# Altium integrated library Renesas Microcontroller R8C.IntLib: 628 symbols (part 25 of 33)
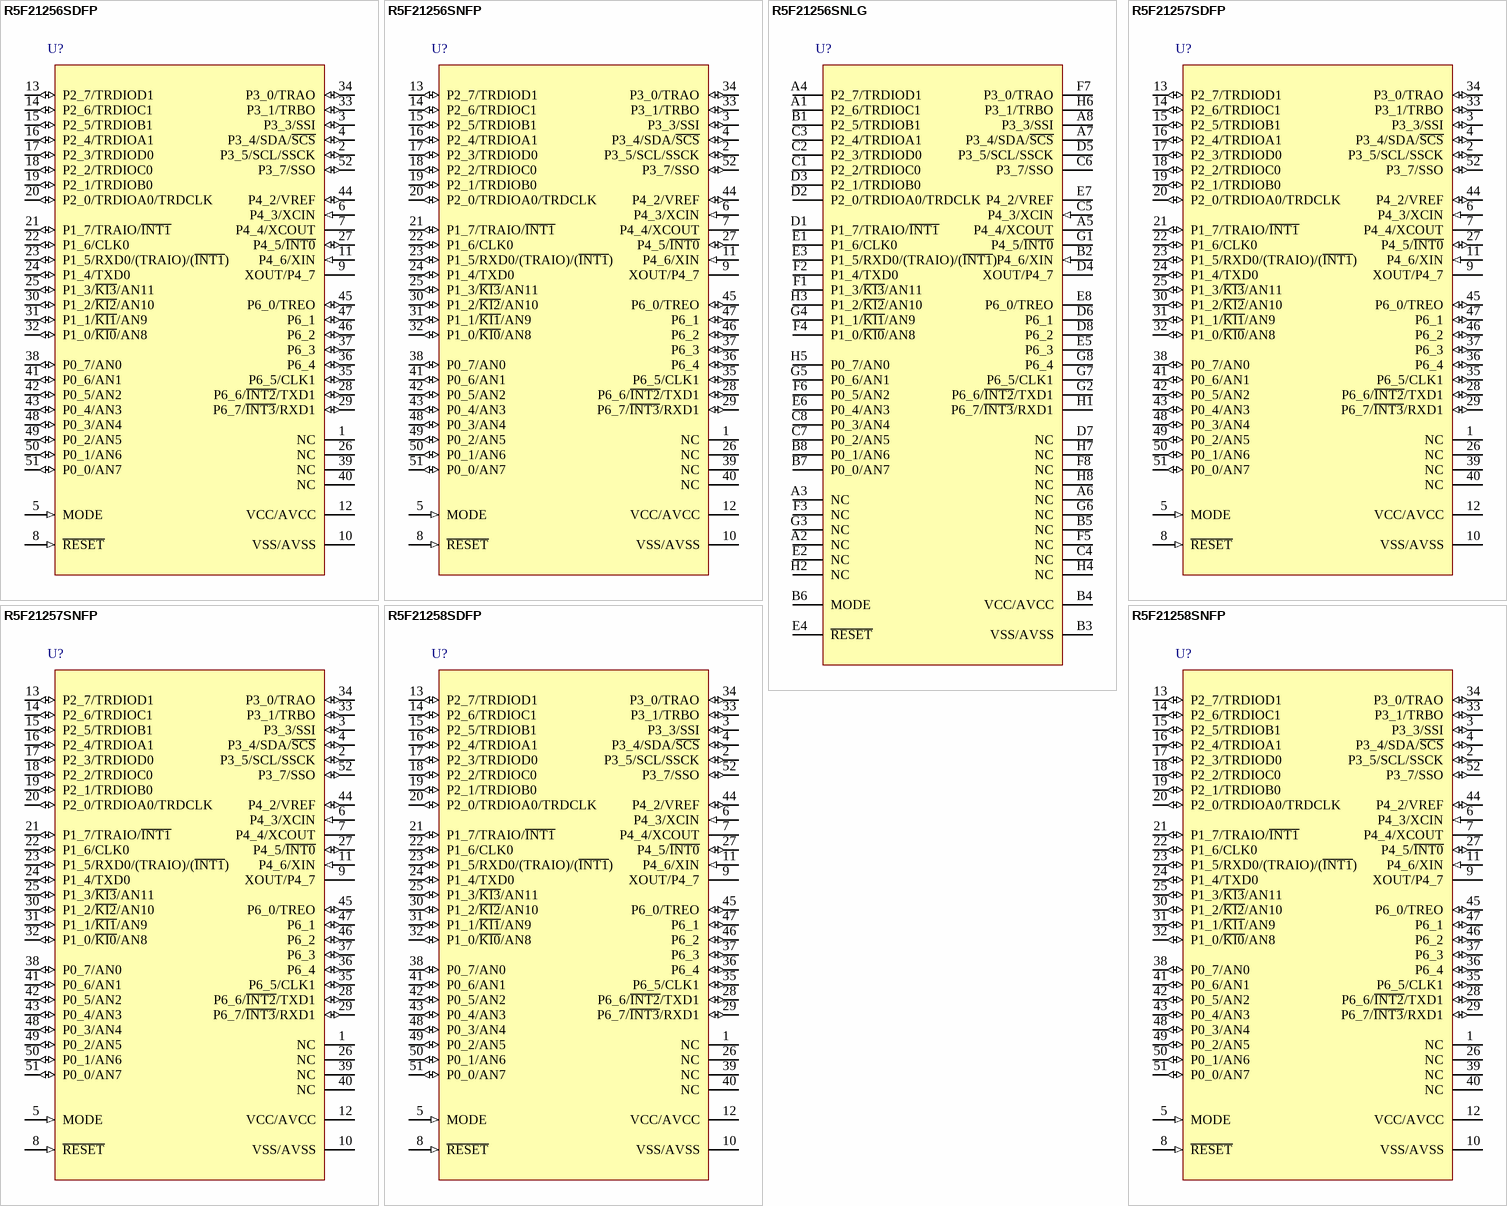
[diagram p140: symbols R5F21256SDFP to R5F21258SNFP]

## R5F21257SNFP
designator U?
R8C/25 Group Single Chip 16-Bit CMOS MCU, 48K ROM + 1K x2 Data Flash, 2.5K RAM, N Version; Published: 30-Oct-2009; DatasheetVersion: Rev.3.00, Feb-2008; PackageVersion: Nov-2007; PackageReference: PLQP0052JA-A; Publisher: Altium Limited; PackageDescription: 52-Pin Plastic Low Profile QFP, 10 x 10 x 1.4 mm Body, 0.65 mm Pitch; Code_JEITA: P-LQFP52-10x10-0.65; ComponentLink1Description: Manufacturer Link; ComponentLink1URL: http://sg.renesas.com/fmwk.jsp?cnt=r8c_family_landing.jsp&fp=/products/mpumcu/r8c_family/; ComponentLink2Description: Datasheet; ComponentLink2URL: http://documentation.renesas.com/eng/products/mpumcu/rej03b0117_r8c2425ds.pdf; ComponentLink3Description: Packaging Specification; ComponentLink3URL: http://sg.renesas.com/media/products/common_info/package/pdf/ic/code/plqp0052ja_a.pdf
footprint PLQP0052JA-A_N (QFP, 52-Leads, Body 10x10mm, Pitch 0.65mm, IPC Medium Density)
footprint PLQP0052JA-A_L (QFP, 52-Leads, Body 10x10mm, Pitch 0.65mm, IPC High Density)
footprint PLQP0052JA-A_M (QFP, 52-Leads, Body 10x10mm, Pitch 0.65mm, IPC Low Density)
pins: 1 NC, 2 P3_5/SCL/SSCK (io), 3 P3_3/SSI (io), 4 P3_4/SDA/~{SCS} (io), 5 MODE (in), 6 P4_3/XCIN (in), 7 P4_4/XCOUT, 8 ~{RESET} (in), 9 XOUT/P4_7, 10 VSS/AVSS (power), 11 P4_6/XIN (in), 12 VCC/AVCC (power), 13 P2_7/TRDIOD1 (io), 14 P2_6/TRDIOC1 (io), 15 P2_5/TRDIOB1 (io), 16 P2_4/TRDIOA1 (io), 17 P2_3/TRDIOD0 (io), 18 P2_2/TRDIOC0 (io), 19 P2_1/TRDIOB0 (io), 20 P2_0/TRDIOA0/TRDCLK (io), 21 P1_7/TRAIO/~{INT1} (io), 22 P1_6/CLK0 (io), 23 P1_5/RXD0/(TRAIO)/(~{INT1}) (io), 24 P1_4/TXD0 (io), 25 P1_3/~{KI3}/AN11 (io), 26 NC, 27 P4_5/~{INT0} (io), 28 P6_6/~{INT2}/TXD1 (io), 29 P6_7/~{INT3}/RXD1 (io), 30 P1_2/~{KI2}/AN10 (io), 31 P1_1/~{KI1}/AN9 (io), 32 P1_0/~{KI0}/AN8 (io), 33 P3_1/TRBO (io), 34 P3_0/TRAO (io), 35 P6_5/CLK1 (io), 36 P6_4 (io), 37 P6_3 (io), 38 P0_7/AN0 (io), 39 NC, 40 NC, 41 P0_6/AN1 (io), 42 P0_5/AN2 (io), 43 P0_4/AN3 (io), 44 P4_2/VREF (io), 45 P6_0/TREO (io), 46 P6_2 (io), 47 P6_1 (io), 48 P0_3/AN4 (io), 49 P0_2/AN5 (io), 50 P0_1/AN6 (io), 51 P0_0/AN7 (io), 52 P3_7/SSO (io)

## R5F21258SDFP
designator U?
R8C/25 Group Single Chip 16-Bit CMOS MCU, 64K ROM + 1K x2 Data Flash, 3K RAM, D Version; Published: 30-Oct-2009; DatasheetVersion: Rev.3.00, Feb-2008; PackageVersion: Nov-2007; PackageReference: PLQP0052JA-A; Publisher: Altium Limited; PackageDescription: 52-Pin Plastic Low Profile QFP, 10 x 10 x 1.4 mm Body, 0.65 mm Pitch; Code_JEITA: P-LQFP52-10x10-0.65; ComponentLink1Description: Manufacturer Link; ComponentLink1URL: http://sg.renesas.com/fmwk.jsp?cnt=r8c_family_landing.jsp&fp=/products/mpumcu/r8c_family/; ComponentLink2Description: Datasheet; ComponentLink2URL: http://documentation.renesas.com/eng/products/mpumcu/rej03b0117_r8c2425ds.pdf; ComponentLink3Description: Packaging Specification; ComponentLink3URL: http://sg.renesas.com/media/products/common_info/package/pdf/ic/code/plqp0052ja_a.pdf
footprint PLQP0052JA-A_N (QFP, 52-Leads, Body 10x10mm, Pitch 0.65mm, IPC Medium Density)
footprint PLQP0052JA-A_L (QFP, 52-Leads, Body 10x10mm, Pitch 0.65mm, IPC High Density)
footprint PLQP0052JA-A_M (QFP, 52-Leads, Body 10x10mm, Pitch 0.65mm, IPC Low Density)
pins: 1 NC, 2 P3_5/SCL/SSCK (io), 3 P3_3/SSI (io), 4 P3_4/SDA/~{SCS} (io), 5 MODE (in), 6 P4_3/XCIN (in), 7 P4_4/XCOUT, 8 ~{RESET} (in), 9 XOUT/P4_7, 10 VSS/AVSS (power), 11 P4_6/XIN (in), 12 VCC/AVCC (power), 13 P2_7/TRDIOD1 (io), 14 P2_6/TRDIOC1 (io), 15 P2_5/TRDIOB1 (io), 16 P2_4/TRDIOA1 (io), 17 P2_3/TRDIOD0 (io), 18 P2_2/TRDIOC0 (io), 19 P2_1/TRDIOB0 (io), 20 P2_0/TRDIOA0/TRDCLK (io), 21 P1_7/TRAIO/~{INT1} (io), 22 P1_6/CLK0 (io), 23 P1_5/RXD0/(TRAIO)/(~{INT1}) (io), 24 P1_4/TXD0 (io), 25 P1_3/~{KI3}/AN11 (io), 26 NC, 27 P4_5/~{INT0} (io), 28 P6_6/~{INT2}/TXD1 (io), 29 P6_7/~{INT3}/RXD1 (io), 30 P1_2/~{KI2}/AN10 (io), 31 P1_1/~{KI1}/AN9 (io), 32 P1_0/~{KI0}/AN8 (io), 33 P3_1/TRBO (io), 34 P3_0/TRAO (io), 35 P6_5/CLK1 (io), 36 P6_4 (io), 37 P6_3 (io), 38 P0_7/AN0 (io), 39 NC, 40 NC, 41 P0_6/AN1 (io), 42 P0_5/AN2 (io), 43 P0_4/AN3 (io), 44 P4_2/VREF (io), 45 P6_0/TREO (io), 46 P6_2 (io), 47 P6_1 (io), 48 P0_3/AN4 (io), 49 P0_2/AN5 (io), 50 P0_1/AN6 (io), 51 P0_0/AN7 (io), 52 P3_7/SSO (io)

## R5F21258SNFP
designator U?
R8C/25 Group Single Chip 16-Bit CMOS MCU, 64K ROM + 1K x2 Data Flash, 3K RAM, N Version; Published: 30-Oct-2009; DatasheetVersion: Rev.3.00, Feb-2008; PackageVersion: Nov-2007; PackageReference: PLQP0052JA-A; Publisher: Altium Limited; PackageDescription: 52-Pin Plastic Low Profile QFP, 10 x 10 x 1.4 mm Body, 0.65 mm Pitch; Code_JEITA: P-LQFP52-10x10-0.65; ComponentLink1Description: Manufacturer Link; ComponentLink1URL: http://sg.renesas.com/fmwk.jsp?cnt=r8c_family_landing.jsp&fp=/products/mpumcu/r8c_family/; ComponentLink2Description: Datasheet; ComponentLink2URL: http://documentation.renesas.com/eng/products/mpumcu/rej03b0117_r8c2425ds.pdf; ComponentLink3Description: Packaging Specification; ComponentLink3URL: http://sg.renesas.com/media/products/common_info/package/pdf/ic/code/plqp0052ja_a.pdf
footprint PLQP0052JA-A_N (QFP, 52-Leads, Body 10x10mm, Pitch 0.65mm, IPC Medium Density)
footprint PLQP0052JA-A_L (QFP, 52-Leads, Body 10x10mm, Pitch 0.65mm, IPC High Density)
footprint PLQP0052JA-A_M (QFP, 52-Leads, Body 10x10mm, Pitch 0.65mm, IPC Low Density)
pins: 1 NC, 2 P3_5/SCL/SSCK (io), 3 P3_3/SSI (io), 4 P3_4/SDA/~{SCS} (io), 5 MODE (in), 6 P4_3/XCIN (in), 7 P4_4/XCOUT, 8 ~{RESET} (in), 9 XOUT/P4_7, 10 VSS/AVSS (power), 11 P4_6/XIN (in), 12 VCC/AVCC (power), 13 P2_7/TRDIOD1 (io), 14 P2_6/TRDIOC1 (io), 15 P2_5/TRDIOB1 (io), 16 P2_4/TRDIOA1 (io), 17 P2_3/TRDIOD0 (io), 18 P2_2/TRDIOC0 (io), 19 P2_1/TRDIOB0 (io), 20 P2_0/TRDIOA0/TRDCLK (io), 21 P1_7/TRAIO/~{INT1} (io), 22 P1_6/CLK0 (io), 23 P1_5/RXD0/(TRAIO)/(~{INT1}) (io), 24 P1_4/TXD0 (io), 25 P1_3/~{KI3}/AN11 (io), 26 NC, 27 P4_5/~{INT0} (io), 28 P6_6/~{INT2}/TXD1 (io), 29 P6_7/~{INT3}/RXD1 (io), 30 P1_2/~{KI2}/AN10 (io), 31 P1_1/~{KI1}/AN9 (io), 32 P1_0/~{KI0}/AN8 (io), 33 P3_1/TRBO (io), 34 P3_0/TRAO (io), 35 P6_5/CLK1 (io), 36 P6_4 (io), 37 P6_3 (io), 38 P0_7/AN0 (io), 39 NC, 40 NC, 41 P0_6/AN1 (io), 42 P0_5/AN2 (io), 43 P0_4/AN3 (io), 44 P4_2/VREF (io), 45 P6_0/TREO (io), 46 P6_2 (io), 47 P6_1 (io), 48 P0_3/AN4 (io), 49 P0_2/AN5 (io), 50 P0_1/AN6 (io), 51 P0_0/AN7 (io), 52 P3_7/SSO (io)

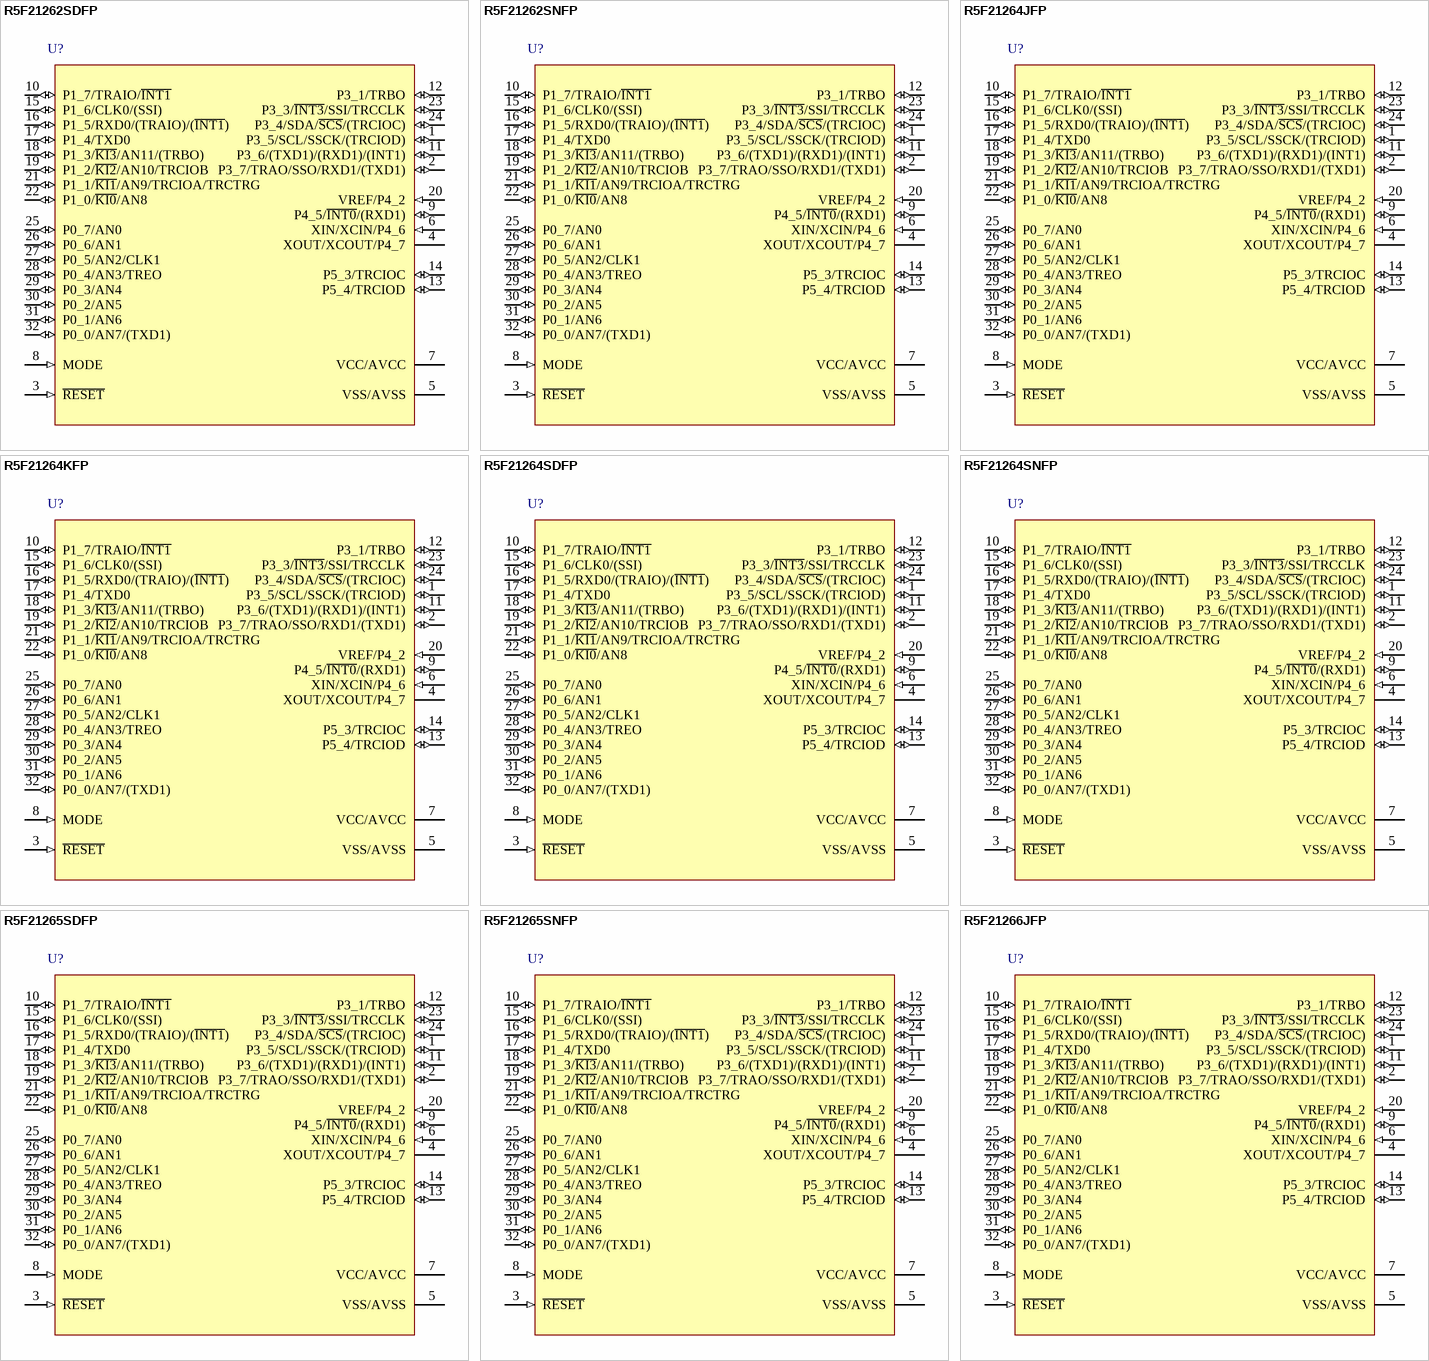
[diagram p86: symbols R5F21262SDFP to R5F21266JFP]

## R5F21262SDFP
designator U?
R8C/26 Group Single Chip 16-Bit CMOS MCU, 8K ROM, 512b RAM, D Version; Published: 30-Oct-2009; DatasheetVersion: Rev.2.10, Sep-2008; PackageVersion: Oct-2005; PackageReference: PLQP0032GB-A; Publisher: Altium Limited; PackageDescription: 32-Pin Plastic Low Profile QFP, 7 x 7 x 1.4 mm Body, 0.8 mm Pitch; Code_JEITA: P-LQFP32-7x7-0.80; ComponentLink1Description: Manufacturer Link; ComponentLink1URL: http://sg.renesas.com/fmwk.jsp?cnt=r8c_family_landing.jsp&fp=/products/mpumcu/r8c_family/; ComponentLink2Description: Datasheet; ComponentLink2URL: http://documentation.renesas.com/eng/products/mpumcu/rej03b0168_r8c2627ds.pdf; ComponentLink3Description: Packaging Specification; ComponentLink3URL: http://sg.renesas.com/media/products/common_info/package/pdf/ic/code/plqp0032gb_a.pdf
footprint PLQP0032GB-A_N (QFP, 32-Leads, Body 7x7mm, Pitch 0.8mm, IPC Medium Density)
footprint PLQP0032GB-A_L (QFP, 32-Leads, Body 7x7mm, Pitch 0.8mm, IPC High Density)
footprint PLQP0032GB-A_M (QFP, 32-Leads, Body 7x7mm, Pitch 0.8mm, IPC Low Density)
pins: 1 P3_5/SCL/SSCK/(TRCIOD) (io), 2 P3_7/TRAO/SSO/RXD1/(TXD1) (io), 3 ~{RESET} (in), 4 XOUT/XCOUT/P4_7, 5 VSS/AVSS (power), 6 XIN/XCIN/P4_6 (in), 7 VCC/AVCC (power), 8 MODE (in), 9 P4_5/~{INT0}/(RXD1) (io), 10 P1_7/TRAIO/~{INT1} (io), 11 P3_6/(TXD1)/(RXD1)/(INT1) (io), 12 P3_1/TRBO (io), 13 P5_4/TRCIOD (io), 14 P5_3/TRCIOC (io), 15 P1_6/CLK0/(SSI) (io), 16 P1_5/RXD0/(TRAIO)/(~{INT1}) (io), 17 P1_4/TXD0 (io), 18 P1_3/~{KI3}/AN11/(TRBO) (io), 19 P1_2/~{KI2}/AN10/TRCIOB (io), 20 VREF/P4_2 (in), 21 P1_1/~{KI1}/AN9/TRCIOA/TRCTRG (io), 22 P1_0/~{KI0}/AN8 (io), 23 P3_3/~{INT3}/SSI/TRCCLK (io), 24 P3_4/SDA/~{SCS}/(TRCIOC) (io), 25 P0_7/AN0 (io), 26 P0_6/AN1 (io), 27 P0_5/AN2/CLK1 (io), 28 P0_4/AN3/TREO (io), 29 P0_3/AN4 (io), 30 P0_2/AN5 (io), 31 P0_1/AN6 (io), 32 P0_0/AN7/(TXD1) (io)

## R5F21262SNFP
designator U?
R8C/26 Group Single Chip 16-Bit CMOS MCU, 8K ROM, 512b RAM, N Version; Published: 30-Oct-2009; DatasheetVersion: Rev.2.10, Sep-2008; PackageVersion: Oct-2005; PackageReference: PLQP0032GB-A; Publisher: Altium Limited; PackageDescription: 32-Pin Plastic Low Profile QFP, 7 x 7 x 1.4 mm Body, 0.8 mm Pitch; Code_JEITA: P-LQFP32-7x7-0.80; ComponentLink1Description: Manufacturer Link; ComponentLink1URL: http://sg.renesas.com/fmwk.jsp?cnt=r8c_family_landing.jsp&fp=/products/mpumcu/r8c_family/; ComponentLink2Description: Datasheet; ComponentLink2URL: http://documentation.renesas.com/eng/products/mpumcu/rej03b0168_r8c2627ds.pdf; ComponentLink3Description: Packaging Specification; ComponentLink3URL: http://sg.renesas.com/media/products/common_info/package/pdf/ic/code/plqp0032gb_a.pdf
footprint PLQP0032GB-A_N (QFP, 32-Leads, Body 7x7mm, Pitch 0.8mm, IPC Medium Density)
footprint PLQP0032GB-A_L (QFP, 32-Leads, Body 7x7mm, Pitch 0.8mm, IPC High Density)
footprint PLQP0032GB-A_M (QFP, 32-Leads, Body 7x7mm, Pitch 0.8mm, IPC Low Density)
pins: 1 P3_5/SCL/SSCK/(TRCIOD) (io), 2 P3_7/TRAO/SSO/RXD1/(TXD1) (io), 3 ~{RESET} (in), 4 XOUT/XCOUT/P4_7, 5 VSS/AVSS (power), 6 XIN/XCIN/P4_6 (in), 7 VCC/AVCC (power), 8 MODE (in), 9 P4_5/~{INT0}/(RXD1) (io), 10 P1_7/TRAIO/~{INT1} (io), 11 P3_6/(TXD1)/(RXD1)/(INT1) (io), 12 P3_1/TRBO (io), 13 P5_4/TRCIOD (io), 14 P5_3/TRCIOC (io), 15 P1_6/CLK0/(SSI) (io), 16 P1_5/RXD0/(TRAIO)/(~{INT1}) (io), 17 P1_4/TXD0 (io), 18 P1_3/~{KI3}/AN11/(TRBO) (io), 19 P1_2/~{KI2}/AN10/TRCIOB (io), 20 VREF/P4_2 (in), 21 P1_1/~{KI1}/AN9/TRCIOA/TRCTRG (io), 22 P1_0/~{KI0}/AN8 (io), 23 P3_3/~{INT3}/SSI/TRCCLK (io), 24 P3_4/SDA/~{SCS}/(TRCIOC) (io), 25 P0_7/AN0 (io), 26 P0_6/AN1 (io), 27 P0_5/AN2/CLK1 (io), 28 P0_4/AN3/TREO (io), 29 P0_3/AN4 (io), 30 P0_2/AN5 (io), 31 P0_1/AN6 (io), 32 P0_0/AN7/(TXD1) (io)

## R5F21264JFP
designator U?
R8C/26 Group Single Chip 16-Bit CMOS MCU, 16K ROM, 1K RAM, J Version; Published: 30-Oct-2009; DatasheetVersion: Rev.2.10, Sep-2008; PackageVersion: Oct-2005; PackageReference: PLQP0032GB-A; Publisher: Altium Limited; PackageDescription: 32-Pin Plastic Low Profile QFP, 7 x 7 x 1.4 mm Body, 0.8 mm Pitch; Code_JEITA: P-LQFP32-7x7-0.80; ComponentLink1Description: Manufacturer Link; ComponentLink1URL: http://sg.renesas.com/fmwk.jsp?cnt=r8c_family_landing.jsp&fp=/products/mpumcu/r8c_family/; ComponentLink2Description: Datasheet; ComponentLink2URL: http://documentation.renesas.com/eng/products/mpumcu/rej03b0168_r8c2627ds.pdf; ComponentLink3Description: Packaging Specification; ComponentLink3URL: http://sg.renesas.com/media/products/common_info/package/pdf/ic/code/plqp0032gb_a.pdf
footprint PLQP0032GB-A_N (QFP, 32-Leads, Body 7x7mm, Pitch 0.8mm, IPC Medium Density)
footprint PLQP0032GB-A_L (QFP, 32-Leads, Body 7x7mm, Pitch 0.8mm, IPC High Density)
footprint PLQP0032GB-A_M (QFP, 32-Leads, Body 7x7mm, Pitch 0.8mm, IPC Low Density)
pins: 1 P3_5/SCL/SSCK/(TRCIOD) (io), 2 P3_7/TRAO/SSO/RXD1/(TXD1) (io), 3 ~{RESET} (in), 4 XOUT/XCOUT/P4_7, 5 VSS/AVSS (power), 6 XIN/XCIN/P4_6 (in), 7 VCC/AVCC (power), 8 MODE (in), 9 P4_5/~{INT0}/(RXD1) (io), 10 P1_7/TRAIO/~{INT1} (io), 11 P3_6/(TXD1)/(RXD1)/(INT1) (io), 12 P3_1/TRBO (io), 13 P5_4/TRCIOD (io), 14 P5_3/TRCIOC (io), 15 P1_6/CLK0/(SSI) (io), 16 P1_5/RXD0/(TRAIO)/(~{INT1}) (io), 17 P1_4/TXD0 (io), 18 P1_3/~{KI3}/AN11/(TRBO) (io), 19 P1_2/~{KI2}/AN10/TRCIOB (io), 20 VREF/P4_2 (in), 21 P1_1/~{KI1}/AN9/TRCIOA/TRCTRG (io), 22 P1_0/~{KI0}/AN8 (io), 23 P3_3/~{INT3}/SSI/TRCCLK (io), 24 P3_4/SDA/~{SCS}/(TRCIOC) (io), 25 P0_7/AN0 (io), 26 P0_6/AN1 (io), 27 P0_5/AN2/CLK1 (io), 28 P0_4/AN3/TREO (io), 29 P0_3/AN4 (io), 30 P0_2/AN5 (io), 31 P0_1/AN6 (io), 32 P0_0/AN7/(TXD1) (io)

## R5F21264KFP
designator U?
R8C/26 Group Single Chip 16-Bit CMOS MCU, 16K ROM, 1K RAM, K Version; Published: 30-Oct-2009; DatasheetVersion: Rev.2.10, Sep-2008; PackageVersion: Oct-2005; PackageReference: PLQP0032GB-A; Publisher: Altium Limited; PackageDescription: 32-Pin Plastic Low Profile QFP, 7 x 7 x 1.4 mm Body, 0.8 mm Pitch; Code_JEITA: P-LQFP32-7x7-0.80; ComponentLink1Description: Manufacturer Link; ComponentLink1URL: http://sg.renesas.com/fmwk.jsp?cnt=r8c_family_landing.jsp&fp=/products/mpumcu/r8c_family/; ComponentLink2Description: Datasheet; ComponentLink2URL: http://documentation.renesas.com/eng/products/mpumcu/rej03b0168_r8c2627ds.pdf; ComponentLink3Description: Packaging Specification; ComponentLink3URL: http://sg.renesas.com/media/products/common_info/package/pdf/ic/code/plqp0032gb_a.pdf
footprint PLQP0032GB-A_N (QFP, 32-Leads, Body 7x7mm, Pitch 0.8mm, IPC Medium Density)
footprint PLQP0032GB-A_L (QFP, 32-Leads, Body 7x7mm, Pitch 0.8mm, IPC High Density)
footprint PLQP0032GB-A_M (QFP, 32-Leads, Body 7x7mm, Pitch 0.8mm, IPC Low Density)
pins: 1 P3_5/SCL/SSCK/(TRCIOD) (io), 2 P3_7/TRAO/SSO/RXD1/(TXD1) (io), 3 ~{RESET} (in), 4 XOUT/XCOUT/P4_7, 5 VSS/AVSS (power), 6 XIN/XCIN/P4_6 (in), 7 VCC/AVCC (power), 8 MODE (in), 9 P4_5/~{INT0}/(RXD1) (io), 10 P1_7/TRAIO/~{INT1} (io), 11 P3_6/(TXD1)/(RXD1)/(INT1) (io), 12 P3_1/TRBO (io), 13 P5_4/TRCIOD (io), 14 P5_3/TRCIOC (io), 15 P1_6/CLK0/(SSI) (io), 16 P1_5/RXD0/(TRAIO)/(~{INT1}) (io), 17 P1_4/TXD0 (io), 18 P1_3/~{KI3}/AN11/(TRBO) (io), 19 P1_2/~{KI2}/AN10/TRCIOB (io), 20 VREF/P4_2 (in), 21 P1_1/~{KI1}/AN9/TRCIOA/TRCTRG (io), 22 P1_0/~{KI0}/AN8 (io), 23 P3_3/~{INT3}/SSI/TRCCLK (io), 24 P3_4/SDA/~{SCS}/(TRCIOC) (io), 25 P0_7/AN0 (io), 26 P0_6/AN1 (io), 27 P0_5/AN2/CLK1 (io), 28 P0_4/AN3/TREO (io), 29 P0_3/AN4 (io), 30 P0_2/AN5 (io), 31 P0_1/AN6 (io), 32 P0_0/AN7/(TXD1) (io)

## R5F21264SDFP
designator U?
R8C/26 Group Single Chip 16-Bit CMOS MCU, 16K ROM, 1K RAM, D Version; Published: 30-Oct-2009; DatasheetVersion: Rev.2.10, Sep-2008; PackageVersion: Oct-2005; PackageReference: PLQP0032GB-A; Publisher: Altium Limited; PackageDescription: 32-Pin Plastic Low Profile QFP, 7 x 7 x 1.4 mm Body, 0.8 mm Pitch; Code_JEITA: P-LQFP32-7x7-0.80; ComponentLink1Description: Manufacturer Link; ComponentLink1URL: http://sg.renesas.com/fmwk.jsp?cnt=r8c_family_landing.jsp&fp=/products/mpumcu/r8c_family/; ComponentLink2Description: Datasheet; ComponentLink2URL: http://documentation.renesas.com/eng/products/mpumcu/rej03b0168_r8c2627ds.pdf; ComponentLink3Description: Packaging Specification; ComponentLink3URL: http://sg.renesas.com/media/products/common_info/package/pdf/ic/code/plqp0032gb_a.pdf
footprint PLQP0032GB-A_N (QFP, 32-Leads, Body 7x7mm, Pitch 0.8mm, IPC Medium Density)
footprint PLQP0032GB-A_L (QFP, 32-Leads, Body 7x7mm, Pitch 0.8mm, IPC High Density)
footprint PLQP0032GB-A_M (QFP, 32-Leads, Body 7x7mm, Pitch 0.8mm, IPC Low Density)
pins: 1 P3_5/SCL/SSCK/(TRCIOD) (io), 2 P3_7/TRAO/SSO/RXD1/(TXD1) (io), 3 ~{RESET} (in), 4 XOUT/XCOUT/P4_7, 5 VSS/AVSS (power), 6 XIN/XCIN/P4_6 (in), 7 VCC/AVCC (power), 8 MODE (in), 9 P4_5/~{INT0}/(RXD1) (io), 10 P1_7/TRAIO/~{INT1} (io), 11 P3_6/(TXD1)/(RXD1)/(INT1) (io), 12 P3_1/TRBO (io), 13 P5_4/TRCIOD (io), 14 P5_3/TRCIOC (io), 15 P1_6/CLK0/(SSI) (io), 16 P1_5/RXD0/(TRAIO)/(~{INT1}) (io), 17 P1_4/TXD0 (io), 18 P1_3/~{KI3}/AN11/(TRBO) (io), 19 P1_2/~{KI2}/AN10/TRCIOB (io), 20 VREF/P4_2 (in), 21 P1_1/~{KI1}/AN9/TRCIOA/TRCTRG (io), 22 P1_0/~{KI0}/AN8 (io), 23 P3_3/~{INT3}/SSI/TRCCLK (io), 24 P3_4/SDA/~{SCS}/(TRCIOC) (io), 25 P0_7/AN0 (io), 26 P0_6/AN1 (io), 27 P0_5/AN2/CLK1 (io), 28 P0_4/AN3/TREO (io), 29 P0_3/AN4 (io), 30 P0_2/AN5 (io), 31 P0_1/AN6 (io), 32 P0_0/AN7/(TXD1) (io)

## R5F21264SNFP
designator U?
R8C/26 Group Single Chip 16-Bit CMOS MCU, 16K ROM, 1K RAM, N Version; Published: 30-Oct-2009; DatasheetVersion: Rev.2.10, Sep-2008; PackageVersion: Oct-2005; PackageReference: PLQP0032GB-A; Publisher: Altium Limited; PackageDescription: 32-Pin Plastic Low Profile QFP, 7 x 7 x 1.4 mm Body, 0.8 mm Pitch; Code_JEITA: P-LQFP32-7x7-0.80; ComponentLink1Description: Manufacturer Link; ComponentLink1URL: http://sg.renesas.com/fmwk.jsp?cnt=r8c_family_landing.jsp&fp=/products/mpumcu/r8c_family/; ComponentLink2Description: Datasheet; ComponentLink2URL: http://documentation.renesas.com/eng/products/mpumcu/rej03b0168_r8c2627ds.pdf; ComponentLink3Description: Packaging Specification; ComponentLink3URL: http://sg.renesas.com/media/products/common_info/package/pdf/ic/code/plqp0032gb_a.pdf
footprint PLQP0032GB-A_N (QFP, 32-Leads, Body 7x7mm, Pitch 0.8mm, IPC Medium Density)
footprint PLQP0032GB-A_L (QFP, 32-Leads, Body 7x7mm, Pitch 0.8mm, IPC High Density)
footprint PLQP0032GB-A_M (QFP, 32-Leads, Body 7x7mm, Pitch 0.8mm, IPC Low Density)
pins: 1 P3_5/SCL/SSCK/(TRCIOD) (io), 2 P3_7/TRAO/SSO/RXD1/(TXD1) (io), 3 ~{RESET} (in), 4 XOUT/XCOUT/P4_7, 5 VSS/AVSS (power), 6 XIN/XCIN/P4_6 (in), 7 VCC/AVCC (power), 8 MODE (in), 9 P4_5/~{INT0}/(RXD1) (io), 10 P1_7/TRAIO/~{INT1} (io), 11 P3_6/(TXD1)/(RXD1)/(INT1) (io), 12 P3_1/TRBO (io), 13 P5_4/TRCIOD (io), 14 P5_3/TRCIOC (io), 15 P1_6/CLK0/(SSI) (io), 16 P1_5/RXD0/(TRAIO)/(~{INT1}) (io), 17 P1_4/TXD0 (io), 18 P1_3/~{KI3}/AN11/(TRBO) (io), 19 P1_2/~{KI2}/AN10/TRCIOB (io), 20 VREF/P4_2 (in), 21 P1_1/~{KI1}/AN9/TRCIOA/TRCTRG (io), 22 P1_0/~{KI0}/AN8 (io), 23 P3_3/~{INT3}/SSI/TRCCLK (io), 24 P3_4/SDA/~{SCS}/(TRCIOC) (io), 25 P0_7/AN0 (io), 26 P0_6/AN1 (io), 27 P0_5/AN2/CLK1 (io), 28 P0_4/AN3/TREO (io), 29 P0_3/AN4 (io), 30 P0_2/AN5 (io), 31 P0_1/AN6 (io), 32 P0_0/AN7/(TXD1) (io)

## R5F21265SDFP
designator U?
R8C/26 Group Single Chip 16-Bit CMOS MCU, 24K ROM, 1.5K RAM, D Version; Published: 30-Oct-2009; DatasheetVersion: Rev.2.10, Sep-2008; PackageVersion: Oct-2005; PackageReference: PLQP0032GB-A; Publisher: Altium Limited; PackageDescription: 32-Pin Plastic Low Profile QFP, 7 x 7 x 1.4 mm Body, 0.8 mm Pitch; Code_JEITA: P-LQFP32-7x7-0.80; ComponentLink1Description: Manufacturer Link; ComponentLink1URL: http://sg.renesas.com/fmwk.jsp?cnt=r8c_family_landing.jsp&fp=/products/mpumcu/r8c_family/; ComponentLink2Description: Datasheet; ComponentLink2URL: http://documentation.renesas.com/eng/products/mpumcu/rej03b0168_r8c2627ds.pdf; ComponentLink3Description: Packaging Specification; ComponentLink3URL: http://sg.renesas.com/media/products/common_info/package/pdf/ic/code/plqp0032gb_a.pdf
footprint PLQP0032GB-A_N (QFP, 32-Leads, Body 7x7mm, Pitch 0.8mm, IPC Medium Density)
footprint PLQP0032GB-A_L (QFP, 32-Leads, Body 7x7mm, Pitch 0.8mm, IPC High Density)
footprint PLQP0032GB-A_M (QFP, 32-Leads, Body 7x7mm, Pitch 0.8mm, IPC Low Density)
pins: 1 P3_5/SCL/SSCK/(TRCIOD) (io), 2 P3_7/TRAO/SSO/RXD1/(TXD1) (io), 3 ~{RESET} (in), 4 XOUT/XCOUT/P4_7, 5 VSS/AVSS (power), 6 XIN/XCIN/P4_6 (in), 7 VCC/AVCC (power), 8 MODE (in), 9 P4_5/~{INT0}/(RXD1) (io), 10 P1_7/TRAIO/~{INT1} (io), 11 P3_6/(TXD1)/(RXD1)/(INT1) (io), 12 P3_1/TRBO (io), 13 P5_4/TRCIOD (io), 14 P5_3/TRCIOC (io), 15 P1_6/CLK0/(SSI) (io), 16 P1_5/RXD0/(TRAIO)/(~{INT1}) (io), 17 P1_4/TXD0 (io), 18 P1_3/~{KI3}/AN11/(TRBO) (io), 19 P1_2/~{KI2}/AN10/TRCIOB (io), 20 VREF/P4_2 (in), 21 P1_1/~{KI1}/AN9/TRCIOA/TRCTRG (io), 22 P1_0/~{KI0}/AN8 (io), 23 P3_3/~{INT3}/SSI/TRCCLK (io), 24 P3_4/SDA/~{SCS}/(TRCIOC) (io), 25 P0_7/AN0 (io), 26 P0_6/AN1 (io), 27 P0_5/AN2/CLK1 (io), 28 P0_4/AN3/TREO (io), 29 P0_3/AN4 (io), 30 P0_2/AN5 (io), 31 P0_1/AN6 (io), 32 P0_0/AN7/(TXD1) (io)

## R5F21265SNFP
designator U?
R8C/26 Group Single Chip 16-Bit CMOS MCU, 24K ROM, 1.5K RAM, N Version; Published: 30-Oct-2009; DatasheetVersion: Rev.2.10, Sep-2008; PackageVersion: Oct-2005; PackageReference: PLQP0032GB-A; Publisher: Altium Limited; PackageDescription: 32-Pin Plastic Low Profile QFP, 7 x 7 x 1.4 mm Body, 0.8 mm Pitch; Code_JEITA: P-LQFP32-7x7-0.80; ComponentLink1Description: Manufacturer Link; ComponentLink1URL: http://sg.renesas.com/fmwk.jsp?cnt=r8c_family_landing.jsp&fp=/products/mpumcu/r8c_family/; ComponentLink2Description: Datasheet; ComponentLink2URL: http://documentation.renesas.com/eng/products/mpumcu/rej03b0168_r8c2627ds.pdf; ComponentLink3Description: Packaging Specification; ComponentLink3URL: http://sg.renesas.com/media/products/common_info/package/pdf/ic/code/plqp0032gb_a.pdf
footprint PLQP0032GB-A_N (QFP, 32-Leads, Body 7x7mm, Pitch 0.8mm, IPC Medium Density)
footprint PLQP0032GB-A_L (QFP, 32-Leads, Body 7x7mm, Pitch 0.8mm, IPC High Density)
footprint PLQP0032GB-A_M (QFP, 32-Leads, Body 7x7mm, Pitch 0.8mm, IPC Low Density)
pins: 1 P3_5/SCL/SSCK/(TRCIOD) (io), 2 P3_7/TRAO/SSO/RXD1/(TXD1) (io), 3 ~{RESET} (in), 4 XOUT/XCOUT/P4_7, 5 VSS/AVSS (power), 6 XIN/XCIN/P4_6 (in), 7 VCC/AVCC (power), 8 MODE (in), 9 P4_5/~{INT0}/(RXD1) (io), 10 P1_7/TRAIO/~{INT1} (io), 11 P3_6/(TXD1)/(RXD1)/(INT1) (io), 12 P3_1/TRBO (io), 13 P5_4/TRCIOD (io), 14 P5_3/TRCIOC (io), 15 P1_6/CLK0/(SSI) (io), 16 P1_5/RXD0/(TRAIO)/(~{INT1}) (io), 17 P1_4/TXD0 (io), 18 P1_3/~{KI3}/AN11/(TRBO) (io), 19 P1_2/~{KI2}/AN10/TRCIOB (io), 20 VREF/P4_2 (in), 21 P1_1/~{KI1}/AN9/TRCIOA/TRCTRG (io), 22 P1_0/~{KI0}/AN8 (io), 23 P3_3/~{INT3}/SSI/TRCCLK (io), 24 P3_4/SDA/~{SCS}/(TRCIOC) (io), 25 P0_7/AN0 (io), 26 P0_6/AN1 (io), 27 P0_5/AN2/CLK1 (io), 28 P0_4/AN3/TREO (io), 29 P0_3/AN4 (io), 30 P0_2/AN5 (io), 31 P0_1/AN6 (io), 32 P0_0/AN7/(TXD1) (io)

## R5F21266JFP
designator U?
R8C/26 Group Single Chip 16-Bit CMOS MCU, 32K ROM, 1.5K RAM, J Version; Published: 30-Oct-2009; DatasheetVersion: Rev.2.10, Sep-2008; PackageVersion: Oct-2005; PackageReference: PLQP0032GB-A; Publisher: Altium Limited; PackageDescription: 32-Pin Plastic Low Profile QFP, 7 x 7 x 1.4 mm Body, 0.8 mm Pitch; Code_JEITA: P-LQFP32-7x7-0.80; ComponentLink1Description: Manufacturer Link; ComponentLink1URL: http://sg.renesas.com/fmwk.jsp?cnt=r8c_family_landing.jsp&fp=/products/mpumcu/r8c_family/; ComponentLink2Description: Datasheet; ComponentLink2URL: http://documentation.renesas.com/eng/products/mpumcu/rej03b0168_r8c2627ds.pdf; ComponentLink3Description: Packaging Specification; ComponentLink3URL: http://sg.renesas.com/media/products/common_info/package/pdf/ic/code/plqp0032gb_a.pdf
footprint PLQP0032GB-A_N (QFP, 32-Leads, Body 7x7mm, Pitch 0.8mm, IPC Medium Density)
footprint PLQP0032GB-A_L (QFP, 32-Leads, Body 7x7mm, Pitch 0.8mm, IPC High Density)
footprint PLQP0032GB-A_M (QFP, 32-Leads, Body 7x7mm, Pitch 0.8mm, IPC Low Density)
pins: 1 P3_5/SCL/SSCK/(TRCIOD) (io), 2 P3_7/TRAO/SSO/RXD1/(TXD1) (io), 3 ~{RESET} (in), 4 XOUT/XCOUT/P4_7, 5 VSS/AVSS (power), 6 XIN/XCIN/P4_6 (in), 7 VCC/AVCC (power), 8 MODE (in), 9 P4_5/~{INT0}/(RXD1) (io), 10 P1_7/TRAIO/~{INT1} (io), 11 P3_6/(TXD1)/(RXD1)/(INT1) (io), 12 P3_1/TRBO (io), 13 P5_4/TRCIOD (io), 14 P5_3/TRCIOC (io), 15 P1_6/CLK0/(SSI) (io), 16 P1_5/RXD0/(TRAIO)/(~{INT1}) (io), 17 P1_4/TXD0 (io), 18 P1_3/~{KI3}/AN11/(TRBO) (io), 19 P1_2/~{KI2}/AN10/TRCIOB (io), 20 VREF/P4_2 (in), 21 P1_1/~{KI1}/AN9/TRCIOA/TRCTRG (io), 22 P1_0/~{KI0}/AN8 (io), 23 P3_3/~{INT3}/SSI/TRCCLK (io), 24 P3_4/SDA/~{SCS}/(TRCIOC) (io), 25 P0_7/AN0 (io), 26 P0_6/AN1 (io), 27 P0_5/AN2/CLK1 (io), 28 P0_4/AN3/TREO (io), 29 P0_3/AN4 (io), 30 P0_2/AN5 (io), 31 P0_1/AN6 (io), 32 P0_0/AN7/(TXD1) (io)

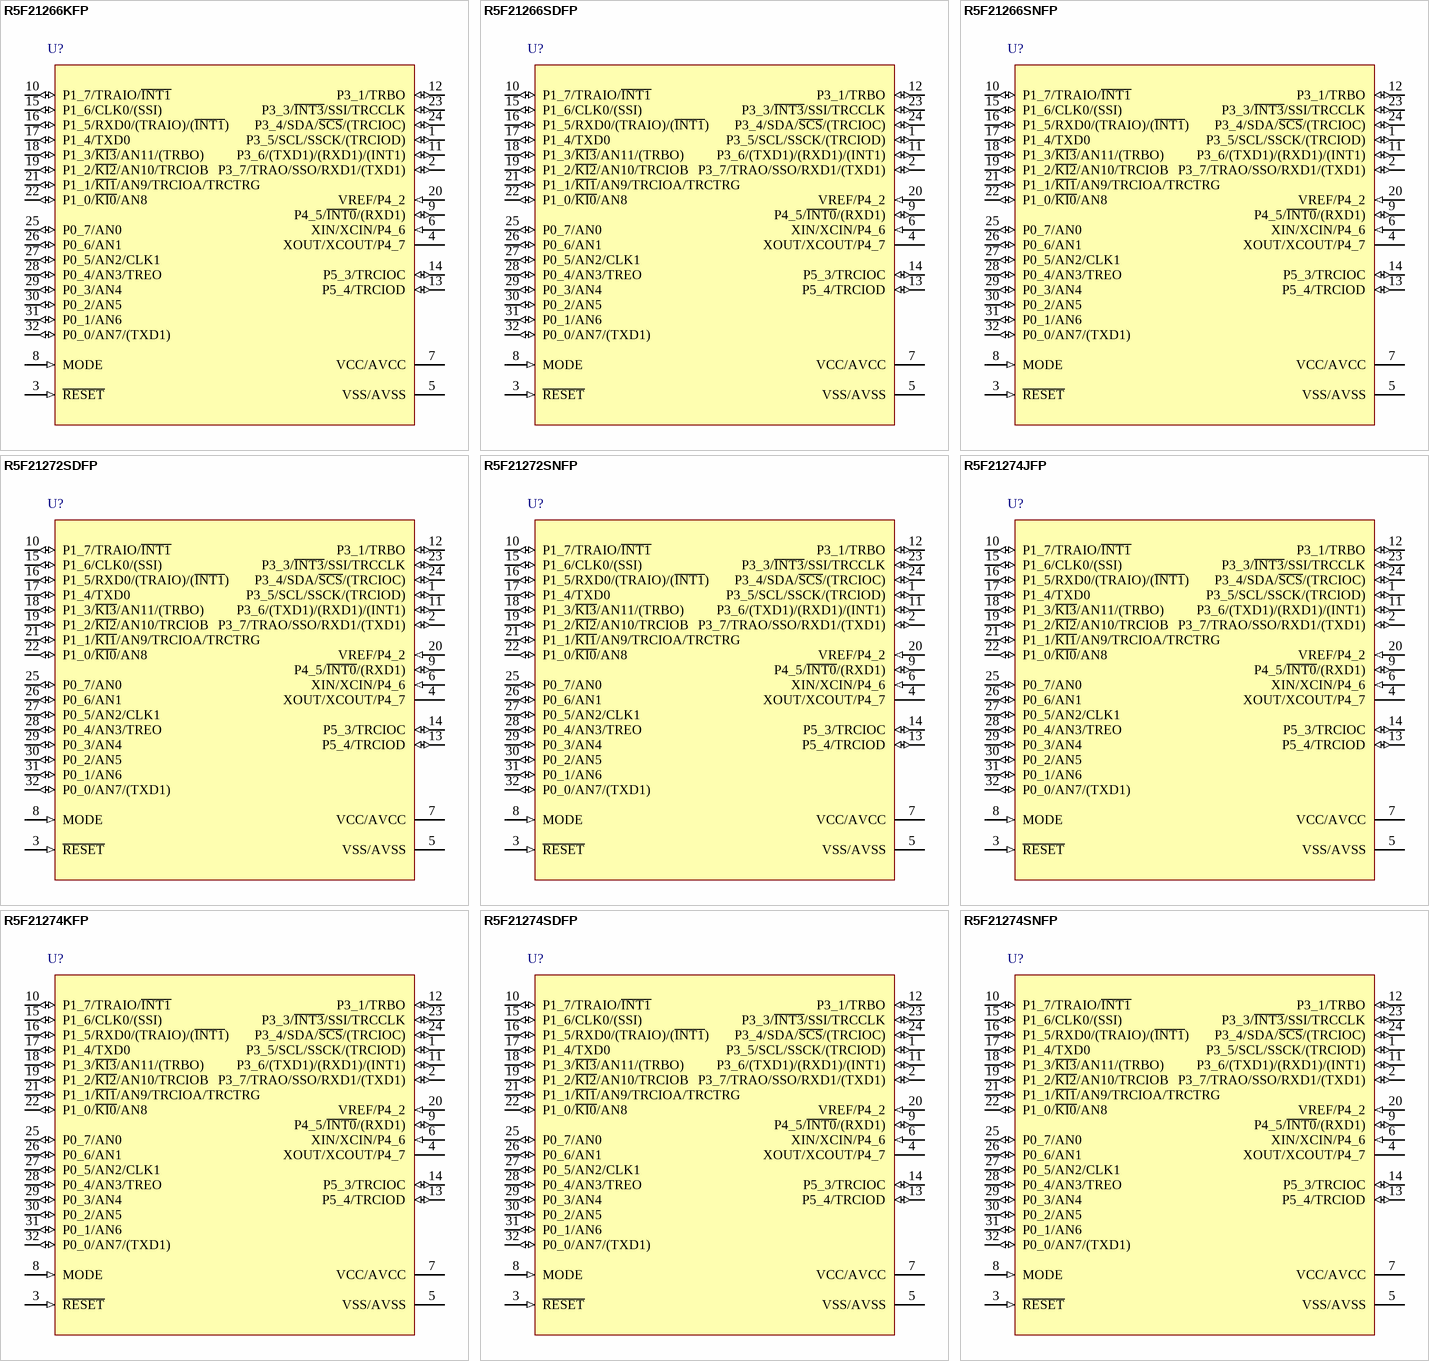
[diagram p87: symbols R5F21266KFP to R5F21274SNFP]

## R5F21266KFP
designator U?
R8C/26 Group Single Chip 16-Bit CMOS MCU, 32K ROM, 1.5K RAM, K Version; Published: 30-Oct-2009; DatasheetVersion: Rev.2.10, Sep-2008; PackageVersion: Oct-2005; PackageReference: PLQP0032GB-A; Publisher: Altium Limited; PackageDescription: 32-Pin Plastic Low Profile QFP, 7 x 7 x 1.4 mm Body, 0.8 mm Pitch; Code_JEITA: P-LQFP32-7x7-0.80; ComponentLink1Description: Manufacturer Link; ComponentLink1URL: http://sg.renesas.com/fmwk.jsp?cnt=r8c_family_landing.jsp&fp=/products/mpumcu/r8c_family/; ComponentLink2Description: Datasheet; ComponentLink2URL: http://documentation.renesas.com/eng/products/mpumcu/rej03b0168_r8c2627ds.pdf; ComponentLink3Description: Packaging Specification; ComponentLink3URL: http://sg.renesas.com/media/products/common_info/package/pdf/ic/code/plqp0032gb_a.pdf
footprint PLQP0032GB-A_N (QFP, 32-Leads, Body 7x7mm, Pitch 0.8mm, IPC Medium Density)
footprint PLQP0032GB-A_L (QFP, 32-Leads, Body 7x7mm, Pitch 0.8mm, IPC High Density)
footprint PLQP0032GB-A_M (QFP, 32-Leads, Body 7x7mm, Pitch 0.8mm, IPC Low Density)
pins: 1 P3_5/SCL/SSCK/(TRCIOD) (io), 2 P3_7/TRAO/SSO/RXD1/(TXD1) (io), 3 ~{RESET} (in), 4 XOUT/XCOUT/P4_7, 5 VSS/AVSS (power), 6 XIN/XCIN/P4_6 (in), 7 VCC/AVCC (power), 8 MODE (in), 9 P4_5/~{INT0}/(RXD1) (io), 10 P1_7/TRAIO/~{INT1} (io), 11 P3_6/(TXD1)/(RXD1)/(INT1) (io), 12 P3_1/TRBO (io), 13 P5_4/TRCIOD (io), 14 P5_3/TRCIOC (io), 15 P1_6/CLK0/(SSI) (io), 16 P1_5/RXD0/(TRAIO)/(~{INT1}) (io), 17 P1_4/TXD0 (io), 18 P1_3/~{KI3}/AN11/(TRBO) (io), 19 P1_2/~{KI2}/AN10/TRCIOB (io), 20 VREF/P4_2 (in), 21 P1_1/~{KI1}/AN9/TRCIOA/TRCTRG (io), 22 P1_0/~{KI0}/AN8 (io), 23 P3_3/~{INT3}/SSI/TRCCLK (io), 24 P3_4/SDA/~{SCS}/(TRCIOC) (io), 25 P0_7/AN0 (io), 26 P0_6/AN1 (io), 27 P0_5/AN2/CLK1 (io), 28 P0_4/AN3/TREO (io), 29 P0_3/AN4 (io), 30 P0_2/AN5 (io), 31 P0_1/AN6 (io), 32 P0_0/AN7/(TXD1) (io)

## R5F21266SDFP
designator U?
R8C/26 Group Single Chip 16-Bit CMOS MCU, 32K ROM, 1.5K RAM, D Version; Published: 30-Oct-2009; DatasheetVersion: Rev.2.10, Sep-2008; PackageVersion: Oct-2005; PackageReference: PLQP0032GB-A; Publisher: Altium Limited; PackageDescription: 32-Pin Plastic Low Profile QFP, 7 x 7 x 1.4 mm Body, 0.8 mm Pitch; Code_JEITA: P-LQFP32-7x7-0.80; ComponentLink1Description: Manufacturer Link; ComponentLink1URL: http://sg.renesas.com/fmwk.jsp?cnt=r8c_family_landing.jsp&fp=/products/mpumcu/r8c_family/; ComponentLink2Description: Datasheet; ComponentLink2URL: http://documentation.renesas.com/eng/products/mpumcu/rej03b0168_r8c2627ds.pdf; ComponentLink3Description: Packaging Specification; ComponentLink3URL: http://sg.renesas.com/media/products/common_info/package/pdf/ic/code/plqp0032gb_a.pdf
footprint PLQP0032GB-A_N (QFP, 32-Leads, Body 7x7mm, Pitch 0.8mm, IPC Medium Density)
footprint PLQP0032GB-A_L (QFP, 32-Leads, Body 7x7mm, Pitch 0.8mm, IPC High Density)
footprint PLQP0032GB-A_M (QFP, 32-Leads, Body 7x7mm, Pitch 0.8mm, IPC Low Density)
pins: 1 P3_5/SCL/SSCK/(TRCIOD) (io), 2 P3_7/TRAO/SSO/RXD1/(TXD1) (io), 3 ~{RESET} (in), 4 XOUT/XCOUT/P4_7, 5 VSS/AVSS (power), 6 XIN/XCIN/P4_6 (in), 7 VCC/AVCC (power), 8 MODE (in), 9 P4_5/~{INT0}/(RXD1) (io), 10 P1_7/TRAIO/~{INT1} (io), 11 P3_6/(TXD1)/(RXD1)/(INT1) (io), 12 P3_1/TRBO (io), 13 P5_4/TRCIOD (io), 14 P5_3/TRCIOC (io), 15 P1_6/CLK0/(SSI) (io), 16 P1_5/RXD0/(TRAIO)/(~{INT1}) (io), 17 P1_4/TXD0 (io), 18 P1_3/~{KI3}/AN11/(TRBO) (io), 19 P1_2/~{KI2}/AN10/TRCIOB (io), 20 VREF/P4_2 (in), 21 P1_1/~{KI1}/AN9/TRCIOA/TRCTRG (io), 22 P1_0/~{KI0}/AN8 (io), 23 P3_3/~{INT3}/SSI/TRCCLK (io), 24 P3_4/SDA/~{SCS}/(TRCIOC) (io), 25 P0_7/AN0 (io), 26 P0_6/AN1 (io), 27 P0_5/AN2/CLK1 (io), 28 P0_4/AN3/TREO (io), 29 P0_3/AN4 (io), 30 P0_2/AN5 (io), 31 P0_1/AN6 (io), 32 P0_0/AN7/(TXD1) (io)

## R5F21266SNFP
designator U?
R8C/26 Group Single Chip 16-Bit CMOS MCU, 32K ROM, 1.5K RAM, N Version; Published: 30-Oct-2009; DatasheetVersion: Rev.2.10, Sep-2008; PackageVersion: Oct-2005; PackageReference: PLQP0032GB-A; Publisher: Altium Limited; PackageDescription: 32-Pin Plastic Low Profile QFP, 7 x 7 x 1.4 mm Body, 0.8 mm Pitch; Code_JEITA: P-LQFP32-7x7-0.80; ComponentLink1Description: Manufacturer Link; ComponentLink1URL: http://sg.renesas.com/fmwk.jsp?cnt=r8c_family_landing.jsp&fp=/products/mpumcu/r8c_family/; ComponentLink2Description: Datasheet; ComponentLink2URL: http://documentation.renesas.com/eng/products/mpumcu/rej03b0168_r8c2627ds.pdf; ComponentLink3Description: Packaging Specification; ComponentLink3URL: http://sg.renesas.com/media/products/common_info/package/pdf/ic/code/plqp0032gb_a.pdf
footprint PLQP0032GB-A_N (QFP, 32-Leads, Body 7x7mm, Pitch 0.8mm, IPC Medium Density)
footprint PLQP0032GB-A_L (QFP, 32-Leads, Body 7x7mm, Pitch 0.8mm, IPC High Density)
footprint PLQP0032GB-A_M (QFP, 32-Leads, Body 7x7mm, Pitch 0.8mm, IPC Low Density)
pins: 1 P3_5/SCL/SSCK/(TRCIOD) (io), 2 P3_7/TRAO/SSO/RXD1/(TXD1) (io), 3 ~{RESET} (in), 4 XOUT/XCOUT/P4_7, 5 VSS/AVSS (power), 6 XIN/XCIN/P4_6 (in), 7 VCC/AVCC (power), 8 MODE (in), 9 P4_5/~{INT0}/(RXD1) (io), 10 P1_7/TRAIO/~{INT1} (io), 11 P3_6/(TXD1)/(RXD1)/(INT1) (io), 12 P3_1/TRBO (io), 13 P5_4/TRCIOD (io), 14 P5_3/TRCIOC (io), 15 P1_6/CLK0/(SSI) (io), 16 P1_5/RXD0/(TRAIO)/(~{INT1}) (io), 17 P1_4/TXD0 (io), 18 P1_3/~{KI3}/AN11/(TRBO) (io), 19 P1_2/~{KI2}/AN10/TRCIOB (io), 20 VREF/P4_2 (in), 21 P1_1/~{KI1}/AN9/TRCIOA/TRCTRG (io), 22 P1_0/~{KI0}/AN8 (io), 23 P3_3/~{INT3}/SSI/TRCCLK (io), 24 P3_4/SDA/~{SCS}/(TRCIOC) (io), 25 P0_7/AN0 (io), 26 P0_6/AN1 (io), 27 P0_5/AN2/CLK1 (io), 28 P0_4/AN3/TREO (io), 29 P0_3/AN4 (io), 30 P0_2/AN5 (io), 31 P0_1/AN6 (io), 32 P0_0/AN7/(TXD1) (io)

## R5F21272SDFP
designator U?
R8C/27 Group Single Chip 16-Bit CMOS MCU, 8K ROM + 1K x2 Data Flash, 512b RAM, D Version; Published: 30-Oct-2009; DatasheetVersion: Rev.2.10, Sep-2008; PackageVersion: Oct-2005; PackageReference: PLQP0032GB-A; Publisher: Altium Limited; PackageDescription: 32-Pin Plastic Low Profile QFP, 7 x 7 x 1.4 mm Body, 0.8 mm Pitch; Code_JEITA: P-LQFP32-7x7-0.80; ComponentLink1Description: Manufacturer Link; ComponentLink1URL: http://sg.renesas.com/fmwk.jsp?cnt=r8c_family_landing.jsp&fp=/products/mpumcu/r8c_family/; ComponentLink2Description: Datasheet; ComponentLink2URL: http://documentation.renesas.com/eng/products/mpumcu/rej03b0168_r8c2627ds.pdf; ComponentLink3Description: Packaging Specification; ComponentLink3URL: http://sg.renesas.com/media/products/common_info/package/pdf/ic/code/plqp0032gb_a.pdf
footprint PLQP0032GB-A_N (QFP, 32-Leads, Body 7x7mm, Pitch 0.8mm, IPC Medium Density)
footprint PLQP0032GB-A_L (QFP, 32-Leads, Body 7x7mm, Pitch 0.8mm, IPC High Density)
footprint PLQP0032GB-A_M (QFP, 32-Leads, Body 7x7mm, Pitch 0.8mm, IPC Low Density)
pins: 1 P3_5/SCL/SSCK/(TRCIOD) (io), 2 P3_7/TRAO/SSO/RXD1/(TXD1) (io), 3 ~{RESET} (in), 4 XOUT/XCOUT/P4_7, 5 VSS/AVSS (power), 6 XIN/XCIN/P4_6 (in), 7 VCC/AVCC (power), 8 MODE (in), 9 P4_5/~{INT0}/(RXD1) (io), 10 P1_7/TRAIO/~{INT1} (io), 11 P3_6/(TXD1)/(RXD1)/(INT1) (io), 12 P3_1/TRBO (io), 13 P5_4/TRCIOD (io), 14 P5_3/TRCIOC (io), 15 P1_6/CLK0/(SSI) (io), 16 P1_5/RXD0/(TRAIO)/(~{INT1}) (io), 17 P1_4/TXD0 (io), 18 P1_3/~{KI3}/AN11/(TRBO) (io), 19 P1_2/~{KI2}/AN10/TRCIOB (io), 20 VREF/P4_2 (in), 21 P1_1/~{KI1}/AN9/TRCIOA/TRCTRG (io), 22 P1_0/~{KI0}/AN8 (io), 23 P3_3/~{INT3}/SSI/TRCCLK (io), 24 P3_4/SDA/~{SCS}/(TRCIOC) (io), 25 P0_7/AN0 (io), 26 P0_6/AN1 (io), 27 P0_5/AN2/CLK1 (io), 28 P0_4/AN3/TREO (io), 29 P0_3/AN4 (io), 30 P0_2/AN5 (io), 31 P0_1/AN6 (io), 32 P0_0/AN7/(TXD1) (io)

## R5F21272SNFP
designator U?
R8C/27 Group Single Chip 16-Bit CMOS MCU, 8K ROM + 1K x2 Data Flash, 512b RAM, N Version; Published: 30-Oct-2009; DatasheetVersion: Rev.2.10, Sep-2008; PackageVersion: Oct-2005; PackageReference: PLQP0032GB-A; Publisher: Altium Limited; PackageDescription: 32-Pin Plastic Low Profile QFP, 7 x 7 x 1.4 mm Body, 0.8 mm Pitch; Code_JEITA: P-LQFP32-7x7-0.80; ComponentLink1Description: Manufacturer Link; ComponentLink1URL: http://sg.renesas.com/fmwk.jsp?cnt=r8c_family_landing.jsp&fp=/products/mpumcu/r8c_family/; ComponentLink2Description: Datasheet; ComponentLink2URL: http://documentation.renesas.com/eng/products/mpumcu/rej03b0168_r8c2627ds.pdf; ComponentLink3Description: Packaging Specification; ComponentLink3URL: http://sg.renesas.com/media/products/common_info/package/pdf/ic/code/plqp0032gb_a.pdf
footprint PLQP0032GB-A_N (QFP, 32-Leads, Body 7x7mm, Pitch 0.8mm, IPC Medium Density)
footprint PLQP0032GB-A_L (QFP, 32-Leads, Body 7x7mm, Pitch 0.8mm, IPC High Density)
footprint PLQP0032GB-A_M (QFP, 32-Leads, Body 7x7mm, Pitch 0.8mm, IPC Low Density)
pins: 1 P3_5/SCL/SSCK/(TRCIOD) (io), 2 P3_7/TRAO/SSO/RXD1/(TXD1) (io), 3 ~{RESET} (in), 4 XOUT/XCOUT/P4_7, 5 VSS/AVSS (power), 6 XIN/XCIN/P4_6 (in), 7 VCC/AVCC (power), 8 MODE (in), 9 P4_5/~{INT0}/(RXD1) (io), 10 P1_7/TRAIO/~{INT1} (io), 11 P3_6/(TXD1)/(RXD1)/(INT1) (io), 12 P3_1/TRBO (io), 13 P5_4/TRCIOD (io), 14 P5_3/TRCIOC (io), 15 P1_6/CLK0/(SSI) (io), 16 P1_5/RXD0/(TRAIO)/(~{INT1}) (io), 17 P1_4/TXD0 (io), 18 P1_3/~{KI3}/AN11/(TRBO) (io), 19 P1_2/~{KI2}/AN10/TRCIOB (io), 20 VREF/P4_2 (in), 21 P1_1/~{KI1}/AN9/TRCIOA/TRCTRG (io), 22 P1_0/~{KI0}/AN8 (io), 23 P3_3/~{INT3}/SSI/TRCCLK (io), 24 P3_4/SDA/~{SCS}/(TRCIOC) (io), 25 P0_7/AN0 (io), 26 P0_6/AN1 (io), 27 P0_5/AN2/CLK1 (io), 28 P0_4/AN3/TREO (io), 29 P0_3/AN4 (io), 30 P0_2/AN5 (io), 31 P0_1/AN6 (io), 32 P0_0/AN7/(TXD1) (io)

## R5F21274JFP
designator U?
R8C/27 Group Single Chip 16-Bit CMOS MCU, 16K ROM + 1K x2 Data Flash, 1K RAM, J Version; Published: 30-Oct-2009; DatasheetVersion: Rev.2.10, Sep-2008; PackageVersion: Oct-2005; PackageReference: PLQP0032GB-A; Publisher: Altium Limited; PackageDescription: 32-Pin Plastic Low Profile QFP, 7 x 7 x 1.4 mm Body, 0.8 mm Pitch; Code_JEITA: P-LQFP32-7x7-0.80; ComponentLink1Description: Manufacturer Link; ComponentLink1URL: http://sg.renesas.com/fmwk.jsp?cnt=r8c_family_landing.jsp&fp=/products/mpumcu/r8c_family/; ComponentLink2Description: Datasheet; ComponentLink2URL: http://documentation.renesas.com/eng/products/mpumcu/rej03b0168_r8c2627ds.pdf; ComponentLink3Description: Packaging Specification; ComponentLink3URL: http://sg.renesas.com/media/products/common_info/package/pdf/ic/code/plqp0032gb_a.pdf
footprint PLQP0032GB-A_N (QFP, 32-Leads, Body 7x7mm, Pitch 0.8mm, IPC Medium Density)
footprint PLQP0032GB-A_L (QFP, 32-Leads, Body 7x7mm, Pitch 0.8mm, IPC High Density)
footprint PLQP0032GB-A_M (QFP, 32-Leads, Body 7x7mm, Pitch 0.8mm, IPC Low Density)
pins: 1 P3_5/SCL/SSCK/(TRCIOD) (io), 2 P3_7/TRAO/SSO/RXD1/(TXD1) (io), 3 ~{RESET} (in), 4 XOUT/XCOUT/P4_7, 5 VSS/AVSS (power), 6 XIN/XCIN/P4_6 (in), 7 VCC/AVCC (power), 8 MODE (in), 9 P4_5/~{INT0}/(RXD1) (io), 10 P1_7/TRAIO/~{INT1} (io), 11 P3_6/(TXD1)/(RXD1)/(INT1) (io), 12 P3_1/TRBO (io), 13 P5_4/TRCIOD (io), 14 P5_3/TRCIOC (io), 15 P1_6/CLK0/(SSI) (io), 16 P1_5/RXD0/(TRAIO)/(~{INT1}) (io), 17 P1_4/TXD0 (io), 18 P1_3/~{KI3}/AN11/(TRBO) (io), 19 P1_2/~{KI2}/AN10/TRCIOB (io), 20 VREF/P4_2 (in), 21 P1_1/~{KI1}/AN9/TRCIOA/TRCTRG (io), 22 P1_0/~{KI0}/AN8 (io), 23 P3_3/~{INT3}/SSI/TRCCLK (io), 24 P3_4/SDA/~{SCS}/(TRCIOC) (io), 25 P0_7/AN0 (io), 26 P0_6/AN1 (io), 27 P0_5/AN2/CLK1 (io), 28 P0_4/AN3/TREO (io), 29 P0_3/AN4 (io), 30 P0_2/AN5 (io), 31 P0_1/AN6 (io), 32 P0_0/AN7/(TXD1) (io)

## R5F21274KFP
designator U?
R8C/27 Group Single Chip 16-Bit CMOS MCU, 16K ROM + 1K x2 Data Flash, 1K RAM, K Version; Published: 30-Oct-2009; DatasheetVersion: Rev.2.10, Sep-2008; PackageVersion: Oct-2005; PackageReference: PLQP0032GB-A; Publisher: Altium Limited; PackageDescription: 32-Pin Plastic Low Profile QFP, 7 x 7 x 1.4 mm Body, 0.8 mm Pitch; Code_JEITA: P-LQFP32-7x7-0.80; ComponentLink1Description: Manufacturer Link; ComponentLink1URL: http://sg.renesas.com/fmwk.jsp?cnt=r8c_family_landing.jsp&fp=/products/mpumcu/r8c_family/; ComponentLink2Description: Datasheet; ComponentLink2URL: http://documentation.renesas.com/eng/products/mpumcu/rej03b0168_r8c2627ds.pdf; ComponentLink3Description: Packaging Specification; ComponentLink3URL: http://sg.renesas.com/media/products/common_info/package/pdf/ic/code/plqp0032gb_a.pdf
footprint PLQP0032GB-A_N (QFP, 32-Leads, Body 7x7mm, Pitch 0.8mm, IPC Medium Density)
footprint PLQP0032GB-A_L (QFP, 32-Leads, Body 7x7mm, Pitch 0.8mm, IPC High Density)
footprint PLQP0032GB-A_M (QFP, 32-Leads, Body 7x7mm, Pitch 0.8mm, IPC Low Density)
pins: 1 P3_5/SCL/SSCK/(TRCIOD) (io), 2 P3_7/TRAO/SSO/RXD1/(TXD1) (io), 3 ~{RESET} (in), 4 XOUT/XCOUT/P4_7, 5 VSS/AVSS (power), 6 XIN/XCIN/P4_6 (in), 7 VCC/AVCC (power), 8 MODE (in), 9 P4_5/~{INT0}/(RXD1) (io), 10 P1_7/TRAIO/~{INT1} (io), 11 P3_6/(TXD1)/(RXD1)/(INT1) (io), 12 P3_1/TRBO (io), 13 P5_4/TRCIOD (io), 14 P5_3/TRCIOC (io), 15 P1_6/CLK0/(SSI) (io), 16 P1_5/RXD0/(TRAIO)/(~{INT1}) (io), 17 P1_4/TXD0 (io), 18 P1_3/~{KI3}/AN11/(TRBO) (io), 19 P1_2/~{KI2}/AN10/TRCIOB (io), 20 VREF/P4_2 (in), 21 P1_1/~{KI1}/AN9/TRCIOA/TRCTRG (io), 22 P1_0/~{KI0}/AN8 (io), 23 P3_3/~{INT3}/SSI/TRCCLK (io), 24 P3_4/SDA/~{SCS}/(TRCIOC) (io), 25 P0_7/AN0 (io), 26 P0_6/AN1 (io), 27 P0_5/AN2/CLK1 (io), 28 P0_4/AN3/TREO (io), 29 P0_3/AN4 (io), 30 P0_2/AN5 (io), 31 P0_1/AN6 (io), 32 P0_0/AN7/(TXD1) (io)

## R5F21274SDFP
designator U?
R8C/27 Group Single Chip 16-Bit CMOS MCU, 16K ROM + 1K x2 Data Flash, 1K RAM, D Version; Published: 30-Oct-2009; DatasheetVersion: Rev.2.10, Sep-2008; PackageVersion: Oct-2005; PackageReference: PLQP0032GB-A; Publisher: Altium Limited; PackageDescription: 32-Pin Plastic Low Profile QFP, 7 x 7 x 1.4 mm Body, 0.8 mm Pitch; Code_JEITA: P-LQFP32-7x7-0.80; ComponentLink1Description: Manufacturer Link; ComponentLink1URL: http://sg.renesas.com/fmwk.jsp?cnt=r8c_family_landing.jsp&fp=/products/mpumcu/r8c_family/; ComponentLink2Description: Datasheet; ComponentLink2URL: http://documentation.renesas.com/eng/products/mpumcu/rej03b0168_r8c2627ds.pdf; ComponentLink3Description: Packaging Specification; ComponentLink3URL: http://sg.renesas.com/media/products/common_info/package/pdf/ic/code/plqp0032gb_a.pdf
footprint PLQP0032GB-A_N (QFP, 32-Leads, Body 7x7mm, Pitch 0.8mm, IPC Medium Density)
footprint PLQP0032GB-A_L (QFP, 32-Leads, Body 7x7mm, Pitch 0.8mm, IPC High Density)
footprint PLQP0032GB-A_M (QFP, 32-Leads, Body 7x7mm, Pitch 0.8mm, IPC Low Density)
pins: 1 P3_5/SCL/SSCK/(TRCIOD) (io), 2 P3_7/TRAO/SSO/RXD1/(TXD1) (io), 3 ~{RESET} (in), 4 XOUT/XCOUT/P4_7, 5 VSS/AVSS (power), 6 XIN/XCIN/P4_6 (in), 7 VCC/AVCC (power), 8 MODE (in), 9 P4_5/~{INT0}/(RXD1) (io), 10 P1_7/TRAIO/~{INT1} (io), 11 P3_6/(TXD1)/(RXD1)/(INT1) (io), 12 P3_1/TRBO (io), 13 P5_4/TRCIOD (io), 14 P5_3/TRCIOC (io), 15 P1_6/CLK0/(SSI) (io), 16 P1_5/RXD0/(TRAIO)/(~{INT1}) (io), 17 P1_4/TXD0 (io), 18 P1_3/~{KI3}/AN11/(TRBO) (io), 19 P1_2/~{KI2}/AN10/TRCIOB (io), 20 VREF/P4_2 (in), 21 P1_1/~{KI1}/AN9/TRCIOA/TRCTRG (io), 22 P1_0/~{KI0}/AN8 (io), 23 P3_3/~{INT3}/SSI/TRCCLK (io), 24 P3_4/SDA/~{SCS}/(TRCIOC) (io), 25 P0_7/AN0 (io), 26 P0_6/AN1 (io), 27 P0_5/AN2/CLK1 (io), 28 P0_4/AN3/TREO (io), 29 P0_3/AN4 (io), 30 P0_2/AN5 (io), 31 P0_1/AN6 (io), 32 P0_0/AN7/(TXD1) (io)

## R5F21274SNFP
designator U?
R8C/27 Group Single Chip 16-Bit CMOS MCU, 16K ROM + 1K x2 Data Flash, 1K RAM, N Version; Published: 30-Oct-2009; DatasheetVersion: Rev.2.10, Sep-2008; PackageVersion: Oct-2005; PackageReference: PLQP0032GB-A; Publisher: Altium Limited; PackageDescription: 32-Pin Plastic Low Profile QFP, 7 x 7 x 1.4 mm Body, 0.8 mm Pitch; Code_JEITA: P-LQFP32-7x7-0.80; ComponentLink1Description: Manufacturer Link; ComponentLink1URL: http://sg.renesas.com/fmwk.jsp?cnt=r8c_family_landing.jsp&fp=/products/mpumcu/r8c_family/; ComponentLink2Description: Datasheet; ComponentLink2URL: http://documentation.renesas.com/eng/products/mpumcu/rej03b0168_r8c2627ds.pdf; ComponentLink3Description: Packaging Specification; ComponentLink3URL: http://sg.renesas.com/media/products/common_info/package/pdf/ic/code/plqp0032gb_a.pdf
footprint PLQP0032GB-A_N (QFP, 32-Leads, Body 7x7mm, Pitch 0.8mm, IPC Medium Density)
footprint PLQP0032GB-A_L (QFP, 32-Leads, Body 7x7mm, Pitch 0.8mm, IPC High Density)
footprint PLQP0032GB-A_M (QFP, 32-Leads, Body 7x7mm, Pitch 0.8mm, IPC Low Density)
pins: 1 P3_5/SCL/SSCK/(TRCIOD) (io), 2 P3_7/TRAO/SSO/RXD1/(TXD1) (io), 3 ~{RESET} (in), 4 XOUT/XCOUT/P4_7, 5 VSS/AVSS (power), 6 XIN/XCIN/P4_6 (in), 7 VCC/AVCC (power), 8 MODE (in), 9 P4_5/~{INT0}/(RXD1) (io), 10 P1_7/TRAIO/~{INT1} (io), 11 P3_6/(TXD1)/(RXD1)/(INT1) (io), 12 P3_1/TRBO (io), 13 P5_4/TRCIOD (io), 14 P5_3/TRCIOC (io), 15 P1_6/CLK0/(SSI) (io), 16 P1_5/RXD0/(TRAIO)/(~{INT1}) (io), 17 P1_4/TXD0 (io), 18 P1_3/~{KI3}/AN11/(TRBO) (io), 19 P1_2/~{KI2}/AN10/TRCIOB (io), 20 VREF/P4_2 (in), 21 P1_1/~{KI1}/AN9/TRCIOA/TRCTRG (io), 22 P1_0/~{KI0}/AN8 (io), 23 P3_3/~{INT3}/SSI/TRCCLK (io), 24 P3_4/SDA/~{SCS}/(TRCIOC) (io), 25 P0_7/AN0 (io), 26 P0_6/AN1 (io), 27 P0_5/AN2/CLK1 (io), 28 P0_4/AN3/TREO (io), 29 P0_3/AN4 (io), 30 P0_2/AN5 (io), 31 P0_1/AN6 (io), 32 P0_0/AN7/(TXD1) (io)

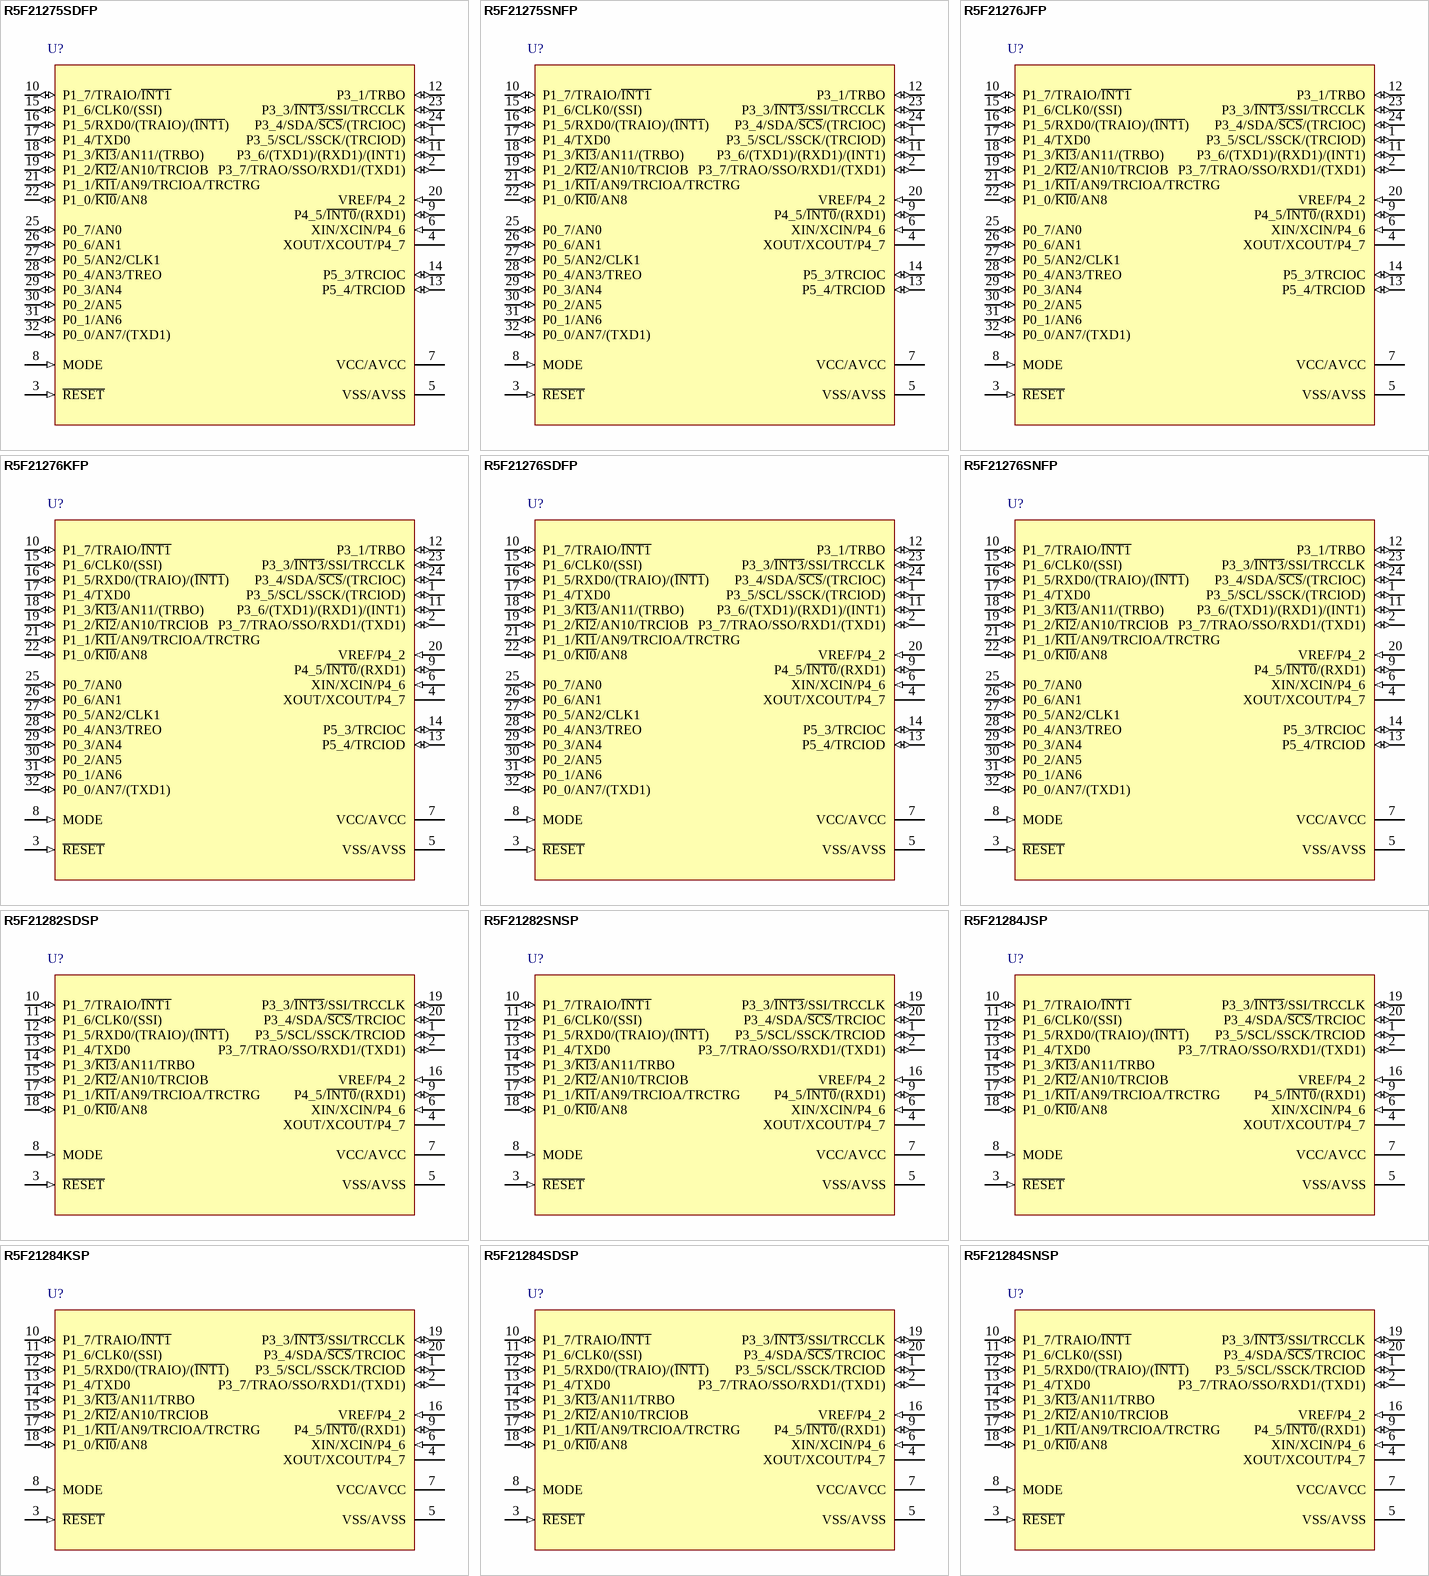
[diagram p88: symbols R5F21275SDFP to R5F21284SNSP]

## R5F21275SDFP
designator U?
R8C/27 Group Single Chip 16-Bit CMOS MCU, 24K ROM + 1K x2 Data Flash, 1.5K RAM, D Version; Published: 30-Oct-2009; DatasheetVersion: Rev.2.10, Sep-2008; PackageVersion: Oct-2005; PackageReference: PLQP0032GB-A; Publisher: Altium Limited; PackageDescription: 32-Pin Plastic Low Profile QFP, 7 x 7 x 1.4 mm Body, 0.8 mm Pitch; Code_JEITA: P-LQFP32-7x7-0.80; ComponentLink1Description: Manufacturer Link; ComponentLink1URL: http://sg.renesas.com/fmwk.jsp?cnt=r8c_family_landing.jsp&fp=/products/mpumcu/r8c_family/; ComponentLink2Description: Datasheet; ComponentLink2URL: http://documentation.renesas.com/eng/products/mpumcu/rej03b0168_r8c2627ds.pdf; ComponentLink3Description: Packaging Specification; ComponentLink3URL: http://sg.renesas.com/media/products/common_info/package/pdf/ic/code/plqp0032gb_a.pdf
footprint PLQP0032GB-A_N (QFP, 32-Leads, Body 7x7mm, Pitch 0.8mm, IPC Medium Density)
footprint PLQP0032GB-A_L (QFP, 32-Leads, Body 7x7mm, Pitch 0.8mm, IPC High Density)
footprint PLQP0032GB-A_M (QFP, 32-Leads, Body 7x7mm, Pitch 0.8mm, IPC Low Density)
pins: 1 P3_5/SCL/SSCK/(TRCIOD) (io), 2 P3_7/TRAO/SSO/RXD1/(TXD1) (io), 3 ~{RESET} (in), 4 XOUT/XCOUT/P4_7, 5 VSS/AVSS (power), 6 XIN/XCIN/P4_6 (in), 7 VCC/AVCC (power), 8 MODE (in), 9 P4_5/~{INT0}/(RXD1) (io), 10 P1_7/TRAIO/~{INT1} (io), 11 P3_6/(TXD1)/(RXD1)/(INT1) (io), 12 P3_1/TRBO (io), 13 P5_4/TRCIOD (io), 14 P5_3/TRCIOC (io), 15 P1_6/CLK0/(SSI) (io), 16 P1_5/RXD0/(TRAIO)/(~{INT1}) (io), 17 P1_4/TXD0 (io), 18 P1_3/~{KI3}/AN11/(TRBO) (io), 19 P1_2/~{KI2}/AN10/TRCIOB (io), 20 VREF/P4_2 (in), 21 P1_1/~{KI1}/AN9/TRCIOA/TRCTRG (io), 22 P1_0/~{KI0}/AN8 (io), 23 P3_3/~{INT3}/SSI/TRCCLK (io), 24 P3_4/SDA/~{SCS}/(TRCIOC) (io), 25 P0_7/AN0 (io), 26 P0_6/AN1 (io), 27 P0_5/AN2/CLK1 (io), 28 P0_4/AN3/TREO (io), 29 P0_3/AN4 (io), 30 P0_2/AN5 (io), 31 P0_1/AN6 (io), 32 P0_0/AN7/(TXD1) (io)

## R5F21275SNFP
designator U?
R8C/27 Group Single Chip 16-Bit CMOS MCU, 24K ROM + 1K x2 Data Flash, 1.5K RAM, N Version; Published: 30-Oct-2009; DatasheetVersion: Rev.2.10, Sep-2008; PackageVersion: Oct-2005; PackageReference: PLQP0032GB-A; Publisher: Altium Limited; PackageDescription: 32-Pin Plastic Low Profile QFP, 7 x 7 x 1.4 mm Body, 0.8 mm Pitch; Code_JEITA: P-LQFP32-7x7-0.80; ComponentLink1Description: Manufacturer Link; ComponentLink1URL: http://sg.renesas.com/fmwk.jsp?cnt=r8c_family_landing.jsp&fp=/products/mpumcu/r8c_family/; ComponentLink2Description: Datasheet; ComponentLink2URL: http://documentation.renesas.com/eng/products/mpumcu/rej03b0168_r8c2627ds.pdf; ComponentLink3Description: Packaging Specification; ComponentLink3URL: http://sg.renesas.com/media/products/common_info/package/pdf/ic/code/plqp0032gb_a.pdf
footprint PLQP0032GB-A_N (QFP, 32-Leads, Body 7x7mm, Pitch 0.8mm, IPC Medium Density)
footprint PLQP0032GB-A_L (QFP, 32-Leads, Body 7x7mm, Pitch 0.8mm, IPC High Density)
footprint PLQP0032GB-A_M (QFP, 32-Leads, Body 7x7mm, Pitch 0.8mm, IPC Low Density)
pins: 1 P3_5/SCL/SSCK/(TRCIOD) (io), 2 P3_7/TRAO/SSO/RXD1/(TXD1) (io), 3 ~{RESET} (in), 4 XOUT/XCOUT/P4_7, 5 VSS/AVSS (power), 6 XIN/XCIN/P4_6 (in), 7 VCC/AVCC (power), 8 MODE (in), 9 P4_5/~{INT0}/(RXD1) (io), 10 P1_7/TRAIO/~{INT1} (io), 11 P3_6/(TXD1)/(RXD1)/(INT1) (io), 12 P3_1/TRBO (io), 13 P5_4/TRCIOD (io), 14 P5_3/TRCIOC (io), 15 P1_6/CLK0/(SSI) (io), 16 P1_5/RXD0/(TRAIO)/(~{INT1}) (io), 17 P1_4/TXD0 (io), 18 P1_3/~{KI3}/AN11/(TRBO) (io), 19 P1_2/~{KI2}/AN10/TRCIOB (io), 20 VREF/P4_2 (in), 21 P1_1/~{KI1}/AN9/TRCIOA/TRCTRG (io), 22 P1_0/~{KI0}/AN8 (io), 23 P3_3/~{INT3}/SSI/TRCCLK (io), 24 P3_4/SDA/~{SCS}/(TRCIOC) (io), 25 P0_7/AN0 (io), 26 P0_6/AN1 (io), 27 P0_5/AN2/CLK1 (io), 28 P0_4/AN3/TREO (io), 29 P0_3/AN4 (io), 30 P0_2/AN5 (io), 31 P0_1/AN6 (io), 32 P0_0/AN7/(TXD1) (io)

## R5F21276JFP
designator U?
R8C/27 Group Single Chip 16-Bit CMOS MCU, 32K ROM + 1K x2 Data Flash, 1.5K RAM, J Version; Published: 30-Oct-2009; DatasheetVersion: Rev.2.10, Sep-2008; PackageVersion: Oct-2005; PackageReference: PLQP0032GB-A; Publisher: Altium Limited; PackageDescription: 32-Pin Plastic Low Profile QFP, 7 x 7 x 1.4 mm Body, 0.8 mm Pitch; Code_JEITA: P-LQFP32-7x7-0.80; ComponentLink1Description: Manufacturer Link; ComponentLink1URL: http://sg.renesas.com/fmwk.jsp?cnt=r8c_family_landing.jsp&fp=/products/mpumcu/r8c_family/; ComponentLink2Description: Datasheet; ComponentLink2URL: http://documentation.renesas.com/eng/products/mpumcu/rej03b0168_r8c2627ds.pdf; ComponentLink3Description: Packaging Specification; ComponentLink3URL: http://sg.renesas.com/media/products/common_info/package/pdf/ic/code/plqp0032gb_a.pdf
footprint PLQP0032GB-A_N (QFP, 32-Leads, Body 7x7mm, Pitch 0.8mm, IPC Medium Density)
footprint PLQP0032GB-A_L (QFP, 32-Leads, Body 7x7mm, Pitch 0.8mm, IPC High Density)
footprint PLQP0032GB-A_M (QFP, 32-Leads, Body 7x7mm, Pitch 0.8mm, IPC Low Density)
pins: 1 P3_5/SCL/SSCK/(TRCIOD) (io), 2 P3_7/TRAO/SSO/RXD1/(TXD1) (io), 3 ~{RESET} (in), 4 XOUT/XCOUT/P4_7, 5 VSS/AVSS (power), 6 XIN/XCIN/P4_6 (in), 7 VCC/AVCC (power), 8 MODE (in), 9 P4_5/~{INT0}/(RXD1) (io), 10 P1_7/TRAIO/~{INT1} (io), 11 P3_6/(TXD1)/(RXD1)/(INT1) (io), 12 P3_1/TRBO (io), 13 P5_4/TRCIOD (io), 14 P5_3/TRCIOC (io), 15 P1_6/CLK0/(SSI) (io), 16 P1_5/RXD0/(TRAIO)/(~{INT1}) (io), 17 P1_4/TXD0 (io), 18 P1_3/~{KI3}/AN11/(TRBO) (io), 19 P1_2/~{KI2}/AN10/TRCIOB (io), 20 VREF/P4_2 (in), 21 P1_1/~{KI1}/AN9/TRCIOA/TRCTRG (io), 22 P1_0/~{KI0}/AN8 (io), 23 P3_3/~{INT3}/SSI/TRCCLK (io), 24 P3_4/SDA/~{SCS}/(TRCIOC) (io), 25 P0_7/AN0 (io), 26 P0_6/AN1 (io), 27 P0_5/AN2/CLK1 (io), 28 P0_4/AN3/TREO (io), 29 P0_3/AN4 (io), 30 P0_2/AN5 (io), 31 P0_1/AN6 (io), 32 P0_0/AN7/(TXD1) (io)

## R5F21276KFP
designator U?
R8C/27 Group Single Chip 16-Bit CMOS MCU, 32K ROM + 1K x2 Data Flash, 1.5K RAM, K Version; Published: 30-Oct-2009; DatasheetVersion: Rev.2.10, Sep-2008; PackageVersion: Oct-2005; PackageReference: PLQP0032GB-A; Publisher: Altium Limited; PackageDescription: 32-Pin Plastic Low Profile QFP, 7 x 7 x 1.4 mm Body, 0.8 mm Pitch; Code_JEITA: P-LQFP32-7x7-0.80; ComponentLink1Description: Manufacturer Link; ComponentLink1URL: http://sg.renesas.com/fmwk.jsp?cnt=r8c_family_landing.jsp&fp=/products/mpumcu/r8c_family/; ComponentLink2Description: Datasheet; ComponentLink2URL: http://documentation.renesas.com/eng/products/mpumcu/rej03b0168_r8c2627ds.pdf; ComponentLink3Description: Packaging Specification; ComponentLink3URL: http://sg.renesas.com/media/products/common_info/package/pdf/ic/code/plqp0032gb_a.pdf
footprint PLQP0032GB-A_N (QFP, 32-Leads, Body 7x7mm, Pitch 0.8mm, IPC Medium Density)
footprint PLQP0032GB-A_L (QFP, 32-Leads, Body 7x7mm, Pitch 0.8mm, IPC High Density)
footprint PLQP0032GB-A_M (QFP, 32-Leads, Body 7x7mm, Pitch 0.8mm, IPC Low Density)
pins: 1 P3_5/SCL/SSCK/(TRCIOD) (io), 2 P3_7/TRAO/SSO/RXD1/(TXD1) (io), 3 ~{RESET} (in), 4 XOUT/XCOUT/P4_7, 5 VSS/AVSS (power), 6 XIN/XCIN/P4_6 (in), 7 VCC/AVCC (power), 8 MODE (in), 9 P4_5/~{INT0}/(RXD1) (io), 10 P1_7/TRAIO/~{INT1} (io), 11 P3_6/(TXD1)/(RXD1)/(INT1) (io), 12 P3_1/TRBO (io), 13 P5_4/TRCIOD (io), 14 P5_3/TRCIOC (io), 15 P1_6/CLK0/(SSI) (io), 16 P1_5/RXD0/(TRAIO)/(~{INT1}) (io), 17 P1_4/TXD0 (io), 18 P1_3/~{KI3}/AN11/(TRBO) (io), 19 P1_2/~{KI2}/AN10/TRCIOB (io), 20 VREF/P4_2 (in), 21 P1_1/~{KI1}/AN9/TRCIOA/TRCTRG (io), 22 P1_0/~{KI0}/AN8 (io), 23 P3_3/~{INT3}/SSI/TRCCLK (io), 24 P3_4/SDA/~{SCS}/(TRCIOC) (io), 25 P0_7/AN0 (io), 26 P0_6/AN1 (io), 27 P0_5/AN2/CLK1 (io), 28 P0_4/AN3/TREO (io), 29 P0_3/AN4 (io), 30 P0_2/AN5 (io), 31 P0_1/AN6 (io), 32 P0_0/AN7/(TXD1) (io)

## R5F21276SDFP
designator U?
R8C/27 Group Single Chip 16-Bit CMOS MCU, 32K ROM + 1K x2 Data Flash, 1.5K RAM, D Version; Published: 30-Oct-2009; DatasheetVersion: Rev.2.10, Sep-2008; PackageVersion: Oct-2005; PackageReference: PLQP0032GB-A; Publisher: Altium Limited; PackageDescription: 32-Pin Plastic Low Profile QFP, 7 x 7 x 1.4 mm Body, 0.8 mm Pitch; Code_JEITA: P-LQFP32-7x7-0.80; ComponentLink1Description: Manufacturer Link; ComponentLink1URL: http://sg.renesas.com/fmwk.jsp?cnt=r8c_family_landing.jsp&fp=/products/mpumcu/r8c_family/; ComponentLink2Description: Datasheet; ComponentLink2URL: http://documentation.renesas.com/eng/products/mpumcu/rej03b0168_r8c2627ds.pdf; ComponentLink3Description: Packaging Specification; ComponentLink3URL: http://sg.renesas.com/media/products/common_info/package/pdf/ic/code/plqp0032gb_a.pdf
footprint PLQP0032GB-A_N (QFP, 32-Leads, Body 7x7mm, Pitch 0.8mm, IPC Medium Density)
footprint PLQP0032GB-A_L (QFP, 32-Leads, Body 7x7mm, Pitch 0.8mm, IPC High Density)
footprint PLQP0032GB-A_M (QFP, 32-Leads, Body 7x7mm, Pitch 0.8mm, IPC Low Density)
pins: 1 P3_5/SCL/SSCK/(TRCIOD) (io), 2 P3_7/TRAO/SSO/RXD1/(TXD1) (io), 3 ~{RESET} (in), 4 XOUT/XCOUT/P4_7, 5 VSS/AVSS (power), 6 XIN/XCIN/P4_6 (in), 7 VCC/AVCC (power), 8 MODE (in), 9 P4_5/~{INT0}/(RXD1) (io), 10 P1_7/TRAIO/~{INT1} (io), 11 P3_6/(TXD1)/(RXD1)/(INT1) (io), 12 P3_1/TRBO (io), 13 P5_4/TRCIOD (io), 14 P5_3/TRCIOC (io), 15 P1_6/CLK0/(SSI) (io), 16 P1_5/RXD0/(TRAIO)/(~{INT1}) (io), 17 P1_4/TXD0 (io), 18 P1_3/~{KI3}/AN11/(TRBO) (io), 19 P1_2/~{KI2}/AN10/TRCIOB (io), 20 VREF/P4_2 (in), 21 P1_1/~{KI1}/AN9/TRCIOA/TRCTRG (io), 22 P1_0/~{KI0}/AN8 (io), 23 P3_3/~{INT3}/SSI/TRCCLK (io), 24 P3_4/SDA/~{SCS}/(TRCIOC) (io), 25 P0_7/AN0 (io), 26 P0_6/AN1 (io), 27 P0_5/AN2/CLK1 (io), 28 P0_4/AN3/TREO (io), 29 P0_3/AN4 (io), 30 P0_2/AN5 (io), 31 P0_1/AN6 (io), 32 P0_0/AN7/(TXD1) (io)